# Altium schematic symbol library 逸芬的库鸭.SchLib: 155 symbols
Pins are listed as number, name and electrical type; pins without a type are passive.

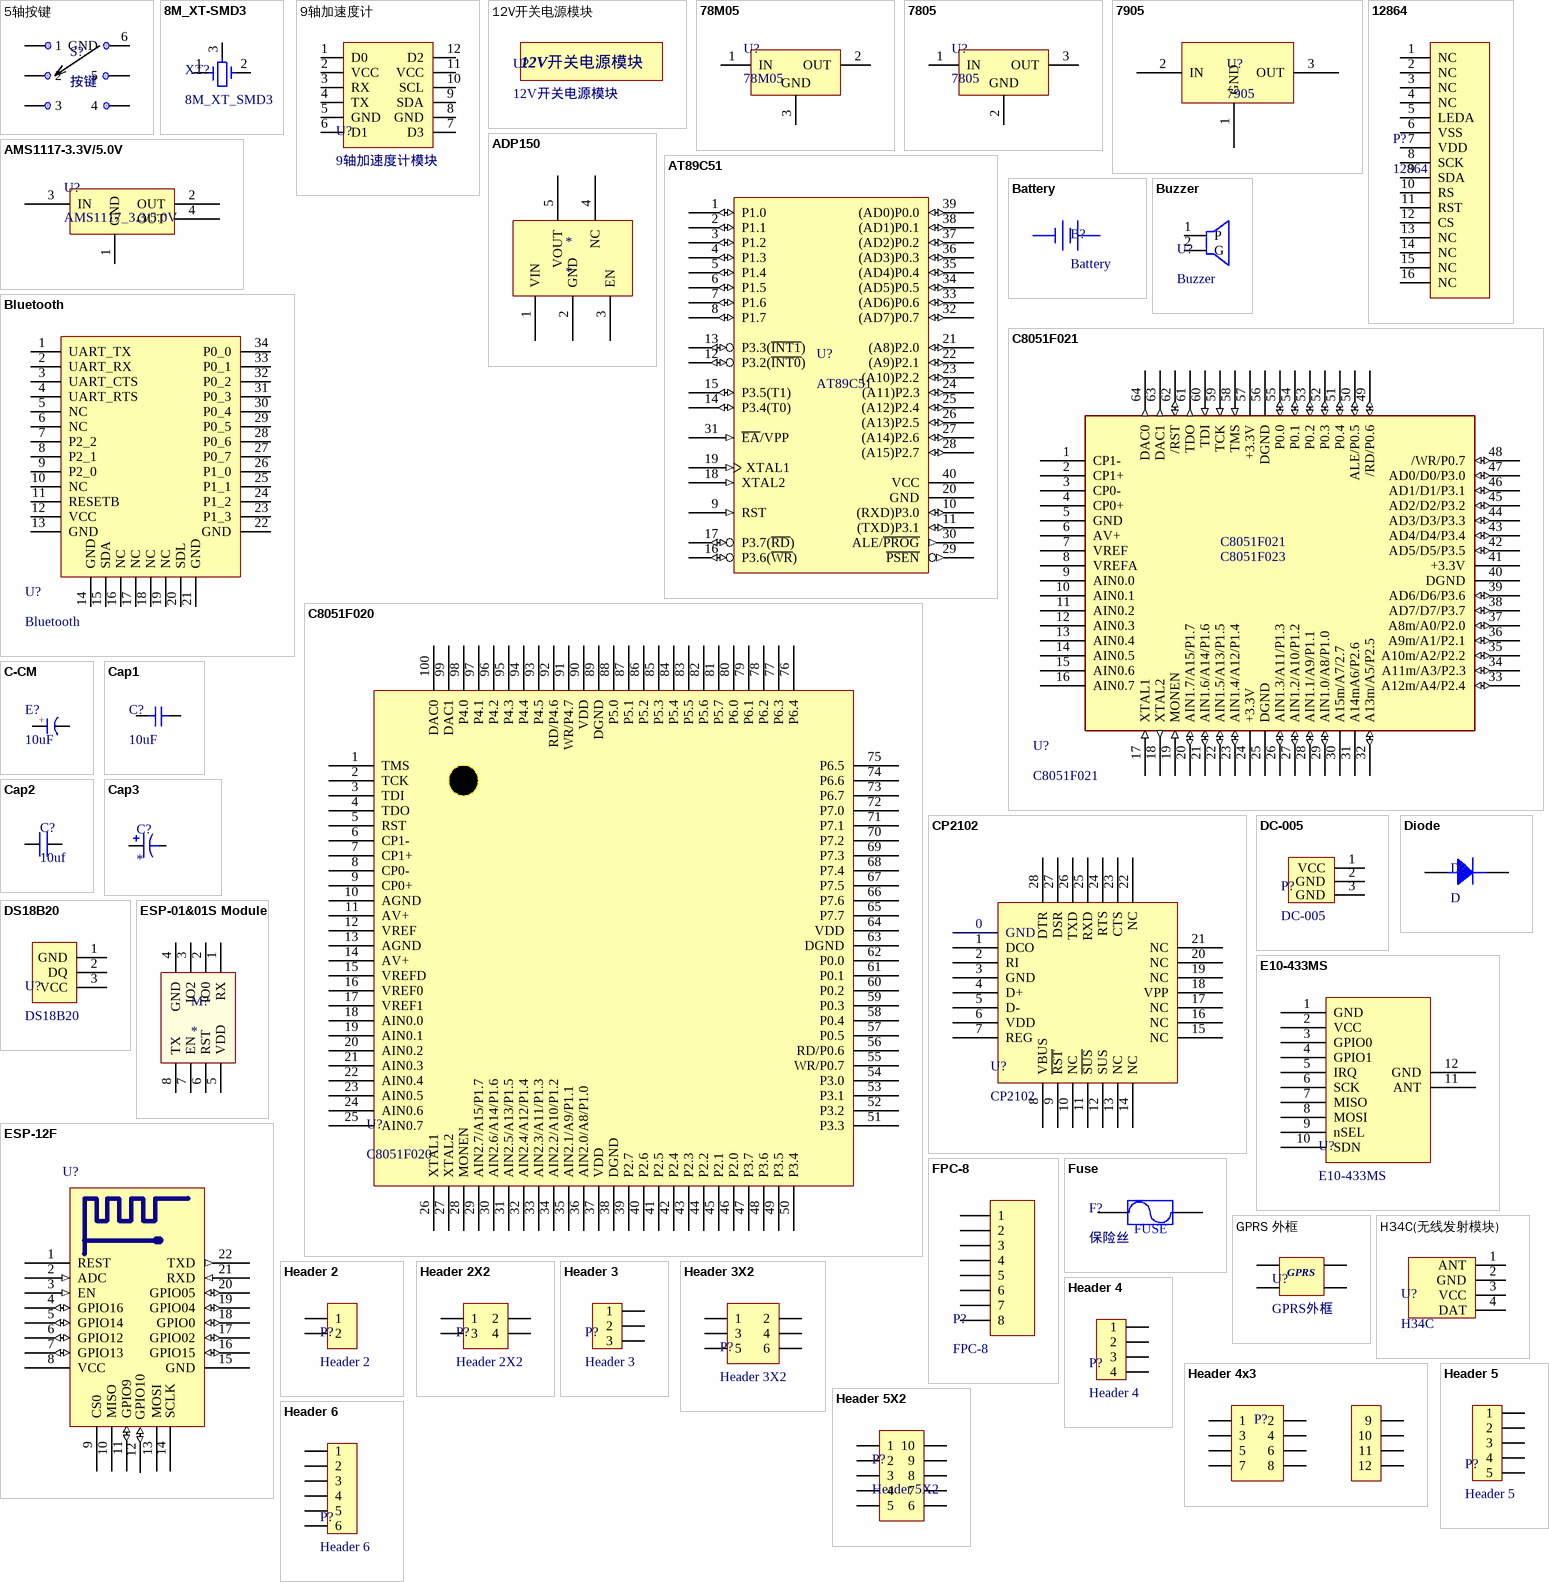
[diagram p0: symbols 5轴按键 to Header 6]

## 5轴按键
designator S?, comment 按键
5轴按键
footprint 5轴按键
pins: 1, 2, 3, 4, 5, 6 GND

## 8M_XT-SMD3
designator XT?, comment 8M_XT_SMD3
footprint 三脚贴片8M晶振 (CSTCC8M00G53-RO)
pins: 1, 2, 3

## 9轴加速度计
designator U?, comment 9轴加速度计模块
footprint 9轴加速度计
pins: 1 D0, 2 VCC, 3 RX, 4 TX, 5 GND, 6 D1, 7 D3, 8 GND, 9 SDA, 10 SCL, 11 VCC, 12 D2

## 12V开关电源模块
designator U?
12V开关电源模块外框
footprint 12V电源开关模块

## 78M05
designator U?
正电压电源芯片
footprint TO-252 (MOS)
pins: 1 IN (power), 2 OUT (power), 3 GND (power)

## 7805
designator U?
正电压电源芯片
footprint TO-220
pins: 1 IN (power), 2 GND (power), 3 OUT (power)

## 7905
designator U?
负电压电源芯片
footprint TO-220
pins: 1 GND, 2 IN, 3 OUT

## 12864
designator P?
显示屏
footprint 12864
pins: 1 NC, 2 NC, 3 NC, 4 NC, 5 LEDA, 6 VSS, 7 VDD, 8 SCK, 9 SDA, 10 RS, 11 RST, 12 CS, 13 NC, 14 NC, 15 NC, 16 NC

## ADP150
designator *
footprint SOT-23-5
pins: 1 VIN, 2 GND, 3 EN, 4 NC, 5 VOUT

## AMS1117-3.3V/5.0V
designator U?, comment AMS1117_3.3/5.0V
电源芯片
footprint SOT-223
pins: 1 GND, 2 OUT, 3 IN, 4 OUT

## AT89C51
designator U?
51单片机
footprint DIP40-W
pins: 1 P1.0 (io), 2 P1.1 (io), 3 P1.2 (io), 4 P1.3 (io), 5 P1.4 (io), 6 P1.5 (io), 7 P1.6 (io), 8 P1.7 (io), 9 RST (in), 10 (RXD)P3.0 (io), 11 (TXD)P3.1 (io), 12 P3.2(~{INT0}) (io), 13 P3.3(~{INT1}) (io), 14 P3.4(T0) (io), 15 P3.5(T1) (io), 16 P3.6(~{WR}) (io), 17 P3.7(~{RD}) (io), 18 XTAL2 (in), 19 XTAL1 (in), 20 GND (power), 21 (A8)P2.0 (io), 22 (A9)P2.1 (io), 23 (A10)P2.2 (io), 24 (A11)P2.3 (io), 25 (A12)P2.4 (io), 26 (A13)P2.5 (io), 27 (A14)P2.6 (io), 28 (A15)P2.7 (io), 29 ~{PSEN} (out), 30 ALE/~{PROG} (out), 31 ~{EA}/VPP (in), 32 (AD7)P0.7 (io), 33 (AD6)P0.6 (io), 34 (AD5)P0.5 (io), 35 (AD4)P0.4 (io), 36 (AD3)P0.3 (io), 37 (AD2)P0.2 (io), 38 (AD1)P0.1 (io), 39 (AD0)P0.0 (io), 40 VCC (power)

## Battery
designator B?
电池
footprint L822(9V电池)
footprint L822(9V电池01)
footprint L1028(12V电池)
pins: 1, 2

## Bluetooth
designator U?
蓝牙
footprint SPP-CA
pins: 1 UART_TX, 2 UART_RX, 3 UART_CTS, 4 UART_RTS, 5 NC, 6 NC, 7 P2_2, 8 P2_1, 9 P2_0, 10 NC, 11 RESETB, 12 VCC, 13 GND, 14 GND, 15 SDA, 16 NC, 17 NC, 18 NC, 19 NC, 20 SDL, 21 GND, 22 GND, 23 P1_3, 24 P1_2, 25 P1_1, 26 P1_0, 27 P0_7, 28 P0_6, 29 P0_5, 30 P0_4, 31 P0_3, 32 P0_2, 33 P0_1, 34 P0_0

## Buzzer
designator U?
蜂鸣器
footprint BUZZER-5mm
footprint BUZZER-6.5mm
footprint BUZZER-8mm
footprint MLT-9032
pins: 1 P, 2 G

## C8051F020
designator U?
020单片机
footprint LQFP-100
pins: 1 TMS, 2 TCK, 3 TDI, 4 TDO, 5 RST, 6 CP1-, 7 CP1+, 8 CP0-, 9 CP0+, 10 AGND, 11 AV+, 12 VREF, 13 AGND, 14 AV+, 15 VREFD, 16 VREF0, 17 VREF1, 18 AIN0.0, 19 AIN0.1, 20 AIN0.2, 21 AIN0.3, 22 AIN0.4, 23 AIN0.5, 24 AIN0.6, 25 AIN0.7, 26 XTAL1, 27 XTAL2, 28 MONEN, 29 AIN2.7/A15/P1.7, 30 AIN2.6/A14/P1.6, 31 AIN2.5/A13/P1.5, 32 AIN2.4/A12/P1.4, 33 AIN2.3/A11/P1.3, 34 AIN2.2/A10/P1.2, 35 AIN2.1/A9/P1.1, 36 AIN2.0/A8/P1.0, 37 VDD, 38 DGND, 39 P2.7, 40 P2.6, 41 P2.5, 42 P2.4, 43 P2.3, 44 P2.2, 45 P2.1, 46 P2.0, 47 P3.7, 48 P3.6, 49 P3.5, 50 P3.4, 51 P3.3, 52 P3.2, 53 P3.1, 54 P3.0, 55 WR/P0.7, 56 RD/P0.6, 57 P0.5, 58 P0.4, 59 P0.3, 60 P0.2, 61 P0.1, 62 P0.0, 63 DGND, 64 VDD, 65 P7.7, 66 P7.6, 67 P7.5, 68 P7.4, 69 P7.3, 70 P7.2, 71 P7.1, 72 P7.0, 73 P6.7, 74 P6.6, 75 P6.5, 76 P6.4, 77 P6.3, 78 P6.2, 79 P6.1, 80 P6.0, 81 P5.7, 82 P5.6, 83 P5.5, 84 P5.4, 85 P5.3, 86 P5.2, 87 P5.1, 88 P5.0, 89 DGND, 90 VDD, 91 WR/P4.7, 92 RD/P4.6, 93 P4.5, 94 P4.4, 95 P4.3, 96 P4.2, 97 P4.1, 98 P4.0, 99 DAC1, 100 DAC0

## C8051F021
designator U?
021单片机
footprint LQFP-64
pins: 1 CP1-, 2 CP1+, 3 CP0-, 4 CP0+, 5 GND (power), 6 AV+ (power), 7 VREF, 8 VREFA, 9 AIN0.0, 10 AIN0.1, 11 AIN0.2, 12 AIN0.3, 13 AIN0.4, 14 AIN0.5, 15 AIN0.6, 16 AIN0.7, 17 XTAL1 (in), 18 XTAL2 (out), 19 MONEN (in), 20 AIN1.7/A15/P1.7 (io), 21 AIN1.6/A14/P1.6 (io), 22 AIN1.5/A13/P1.5 (io), 23 AIN1.4/A12/P1.4 (io), 24 +3.3V (power), 25 DGND (power), 26 AIN1.3/A11/P1.3 (io), 27 AIN1.2/A10/P1.2 (io), 28 AIN1.1/A9/P1.1 (io), 29 AIN1.0/A8/P1.0 (io), 30 A15m/A7/2.7 (power), 31 A14mA6/P2.6 (power), 32 A13m/A5/P2.5 (io), 33 A12m/A4/P2.4 (io), 34 A11m/A3/P2.3 (io), 35 A10m/A2/P2.2 (io), 36 A9m/A1/P2.1 (io), 37 A8m/A0/P2.0 (io), 38 AD7/D7/P3.7 (io), 39 AD6/D6/P3.6 (io), 40 DGND (power), 41 +3.3V (power), 42 AD5/D5/P3.5 (io), 43 AD4/D4/P3.4 (io), 44 AD3/D3/P3.3 (io), 45 AD2/D2/P3.2 (io), 46 AD1/D1/P3.1 (io), 47 AD0/D0/P3.0 (io), 48 /WR/P0.7 (io), 49 /RD/P0.6 (io), 50 ALE/P0.5 (io), 51 P0.4 (io), 52 P0.3 (io), 53 P0.2 (io), 54 P0.1 (io), 55 P0.0 (io), 56 DGND (power), 57 +3.3V (power), 58 TMS (in), 59 TCK (in), 60 TDI (in), 61 TDO (out), 62 /RST (io), 63 DAC1 (out), 64 DAC0 (out)
text: C8051F023

## C-CM
designator E?, comment 10uF
贴片电解电容
footprint CM E(8*10.2) (贴片电解电容，直径8mm，高10.2mm)
footprint CM C(5*5.4) (贴片电解电容，直径5mm，高5.4mm)
pins: 1 A, 2 K
text: +

## Cap1
designator C?, comment 10uF
无极贴片电容
footprint 0805C
footprint 0603C
footprint 1206C
footprint 0402C
footprint 1005C
pins: 1, 2

## Cap2
designator C?, comment 10uf
无极直插电容
footprint 安规电容
footprint RAD-0.1
footprint RAD-0.2
footprint RAD-0.3
pins: 1, 2

## Cap3
designator C?
直插极性电容
footprint RB.1.2
footprint RB.2.4
footprint RB.3.6
footprint RB.8
footprint C_10X16-RA (C-10X16_Horizontal)
pins: 1, 2

## CP2102
designator U?
USB转串口芯片
footprint QFN-28 (CP2102  USB转串口芯片)
pins: 0 GND, 1 DCO, 2 RI, 3 GND, 4 D+, 5 D-, 6 VDD, 7 REG, 8 VBUS, 9 ~{RST}, 10 NC, 11 ~{SUS}, 12 SUS, 13 NC, 14 NC, 15 NC, 16 NC, 17 NC, 18 VPP, 19 NC, 20 NC, 21 NC, 22 NC, 23 CTS, 24 RTS, 25 RXD, 26 TXD, 27 DSR, 28 DTR

## DC-005
designator P?
电源插孔
footprint DC-005
footprint DC-050 (贴片DC005  5.5*2.1)
pins: 1 VCC, 2 GND, 3 GND

## Diode
designator D?, comment D
二极管
footprint SMA/DO-214AC
footprint AXIAL-0.4
footprint SMBJ (TVS瞬态抑制二极管)
pins: 1, 2

## DS18B20
designator U?
数字温度传感器
footprint TO-92
pins: 1 GND, 2 DQ, 3 VCC

## E10-433MS
designator U?
footprint E10-433MS
pins: 1 GND, 2 VCC, 3 GPIO0, 4 GPIO1, 5 IRQ, 6 SCK, 7 MISO, 8 MOSI, 9 nSEL, 10 SDN, 11 ANT, 12 GND

## ESP-01&01S Module
designator M?
footprint esp01 (esp01 wifi模块)
pins: 1 RX, 2 IO0, 3 IO2, 4 GND, 5 VDD, 6 RST, 7 EN, 8 TX

## ESP-12F
designator U?  (value not drawn)
footprint SMD-22
pins: 1 REST, 2 ADC (in), 3 EN (in), 4 GPIO16 (io), 5 GPIO14 (io), 6 GPIO12 (io), 7 GPIO13 (io), 8 VCC (power), 9 CS0 (power), 10 MISO (power), 11 GPIO9 (io), 12 GPIO10 (io), 13 MOSI (power), 14 SCLK (power), 15 GND (power), 16 GPIO15 (io), 17 GPIO02 (io), 18 GPIO0 (io), 19 GPIO04 (io), 20 GPIO05 (io), 21 RXD (in), 22 TXD (out)

## FPC-8
designator P?
软排线底座
footprint FPC-8
pins: 1, 2, 3, 4, 5, 6, 7, 8

## Fuse
designator F?, comment 保险丝
footprint 1812
footprint 1206R
footprint FUSE-1206
pins: 1, 2
text: FUSE

## GPRS 外框
designator U?, comment GPRS外框
footprint GPRS 外框
pins: 0, 0, 1, 2
text: GPRS

## H34C(无线发射模块)
designator U?, comment H34C
无线发射模块
footprint H34C(无线发射模块)
footprint H34C
pins: 1 ANT, 2 GND, 3 VCC, 4 DAT

## Header 2
designator P?
排针
footprint Header 2
footprint HEAT-2
pins: 1, 2

## Header 2X2
designator P?
双排排针
footprint Header 2X2
pins: 1, 2, 3, 4

## Header 3
designator P?
排针
footprint Header 3
footprint HEAT-3
footprint HEADER 3H
pins: 1, 2, 3

## Header 3X2
designator P?
双排排针
footprint Header 3X2
pins: 1, 2, 3, 4, 5, 6

## Header 4
designator P?
排针
footprint Header 4
footprint Header 4(排母)
footprint MX1.25-4PIN
footprint XH4/2.54mm/90
pins: 1, 2, 3, 4

## Header 4x3
designator P?  (value not drawn)
footprint Hearder 4x3
pins: 1, 2, 3, 4, 5, 6, 7, 8, 9, 10, 11, 12

## Header 5
designator P?
排针
footprint Header 5
pins: 1, 2, 3, 4, 5

## Header 5X2
designator P?
排针
footprint HEARDER 5X2_直插
pins: 1, 2, 3, 4, 5, 6, 7, 8, 9, 10

## Header 6
designator P?
排针
footprint Header 6
footprint Header 6(排母)
pins: 1, 2, 3, 4, 5, 6

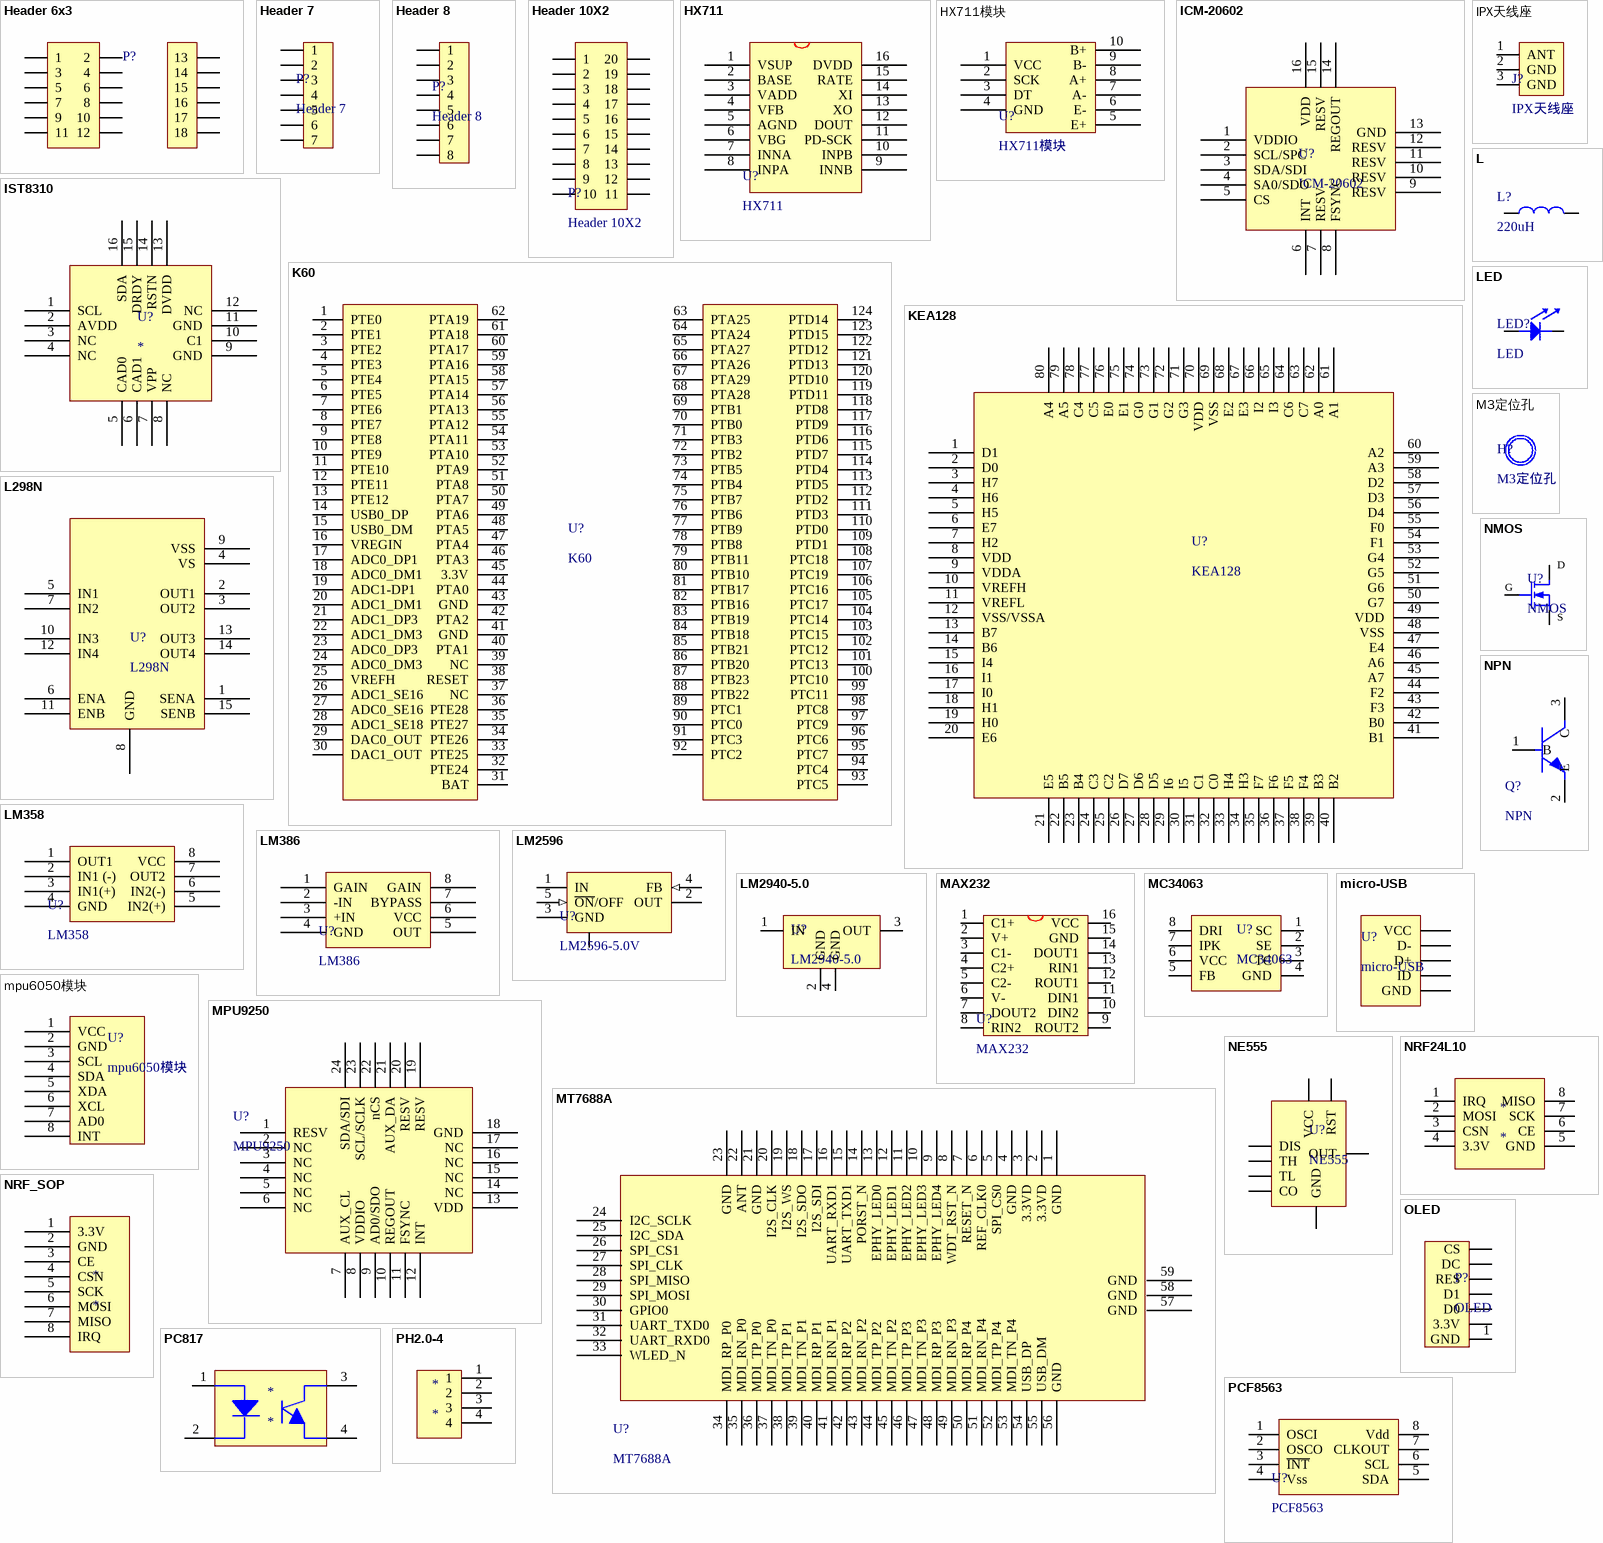
[diagram p1: symbols Header 6x3 to PH2.0-4]

## Header 6x3
designator P?  (value not drawn)
footprint Hearder 6x3
pins: 1, 2, 3, 4, 5, 6, 7, 8, 9, 10, 11, 12, 13, 14, 15, 16, 17, 18

## Header 7
designator P?
排针
footprint Header 7
pins: 1, 2, 3, 4, 5, 6, 7

## Header 8
designator P?
排针
footprint Header 8
pins: 1, 2, 3, 4, 5, 6, 7, 8

## Header 10X2
designator P?
footprint Header 10X2
pins: 1, 2, 3, 4, 5, 6, 7, 8, 9, 10, 11, 12, 13, 14, 15, 16, 17, 18, 19, 20

## HX711
designator U?
A/D转换器芯片
footprint SOP-16
pins: 1 VSUP, 2 BASE, 3 VADD, 4 VFB, 5 AGND, 6 VBG, 7 INNA, 8 INPA, 9 INNB, 10 INPB, 11 PD-SCK, 12 DOUT, 13 XO, 14 XI, 15 RATE, 16 DVDD

## HX711模块
designator U?
A/D转换器模块
footprint HX711模块
pins: 1 VCC, 2 SCK, 3 DT, 4 GND, 5 E+, 6 E-, 7 A-, 8 A+, 9 B-, 10 B+

## ICM-20602
designator U?
footprint LGA-16
pins: 1 VDDIO, 2 SCL/SPC, 3 SDA/SDI, 4 SA0/SDO, 5 CS, 6 INT, 7 RESV, 8 FSYNC, 9 RESV, 10 RESV, 11 RESV, 12 RESV, 13 GND, 14 REGOUT, 15 RESV, 16 VDD

## IPX天线座
designator J?
footprint IPX天线底座
pins: 1 ANT, 2 GND, 3 GND

## IST8310
designator U?
footprint LGA16
pins: 1 SCL, 2 AVDD, 3 NC, 4 NC, 5 CAD0, 6 CAD1, 7 VPP, 8 NC, 9 GND, 10 C1, 11 GND, 12 NC, 13 DVDD, 14 RSTN, 15 DRDY, 16 SDA

## K60
designator U?
恩智浦K60单片机
footprint LQFP-144
footprint K60(龙邱底板)
pins: 1 PTE0, 2 PTE1, 3 PTE2, 4 PTE3, 5 PTE4, 6 PTE5, 7 PTE6, 8 PTE7, 9 PTE8, 10 PTE9, 11 PTE10, 12 PTE11, 13 PTE12, 14 USB0_DP, 15 USB0_DM, 16 VREGIN, 17 ADC0_DP1, 18 ADC0_DM1, 19 ADC1-DP1, 20 ADC1_DM1, 21 ADC1_DP3, 22 ADC1_DM3, 23 ADC0_DP3, 24 ADC0_DM3, 25 VREFH, 26 ADC1_SE16, 27 ADC0_SE16, 28 ADC1_SE18, 29 DAC0_OUT, 30 DAC1_OUT, 31 BAT, 32 PTE24, 33 PTE25, 34 PTE26, 35 PTE27, 36 PTE28, 37 NC, 38 RESET, 39 NC, 40 PTA1, 41 GND, 42 PTA2, 43 GND, 44 PTA0, 45 3.3V, 46 PTA3, 47 PTA4, 48 PTA5, 49 PTA6, 50 PTA7, 51 PTA8, 52 PTA9, 53 PTA10, 54 PTA11, 55 PTA12, 56 PTA13, 57 PTA14, 58 PTA15, 59 PTA16, 60 PTA17, 61 PTA18, 62 PTA19, 63 PTA25, 64 PTA24, 65 PTA27, 66 PTA26, 67 PTA29, 68 PTA28, 69 PTB1, 70 PTB0, 71 PTB3, 72 PTB2, 73 PTB5, 74 PTB4, 75 PTB7, 76 PTB6, 77 PTB9, 78 PTB8, 79 PTB11, 80 PTB10, 81 PTB17, 82 PTB16, 83 PTB19, 84 PTB18, 85 PTB21, 86 PTB20, 87 PTB23, 88 PTB22, 89 PTC1, 90 PTC0, 91 PTC3, 92 PTC2, 93 PTC5, 94 PTC4, 95 PTC7, 96 PTC6, 97 PTC9, 98 PTC8, 99 PTC11, 100 PTC10, 101 PTC13, 102 PTC12, 103 PTC15, 104 PTC14, 105 PTC17, 106 PTC16, 107 PTC19, 108 PTC18, 109 PTD1, 110 PTD0, 111 PTD3, 112 PTD2, 113 PTD5, 114 PTD4, 115 PTD7, 116 PTD6, 117 PTD9, 118 PTD8, 119 PTD11, 120 PTD10, 121 PTD13, 122 PTD12, 123 PTD15, 124 PTD14

## KEA128
designator U?
恩智浦KEA单片机
footprint LQ_KEAP80SYSVK
footprint LQFP-80
pins: 1 D1 (power), 2 D0 (power), 3 H7 (power), 4 H6 (power), 5 H5 (power), 6 E7 (power), 7 H2 (power), 8 VDD (power), 9 VDDA (power), 10 VREFH (power), 11 VREFL (power), 12 VSS/VSSA (power), 13 B7 (power), 14 B6 (power), 15 I4 (power), 16 I1 (power), 17 I0 (power), 18 H1 (power), 19 H0 (power), 20 E6 (power), 21 E5 (power), 22 B5 (power), 23 B4 (power), 24 C3 (power), 25 C2 (power), 26 D7 (power), 27 D6 (power), 28 D5 (power), 29 I6 (power), 30 I5 (power), 31 C1 (power), 32 C0 (power), 33 H4 (power), 34 H3 (power), 35 F7 (power), 36 F6 (power), 37 F5 (power), 38 F4 (power), 39 B3 (power), 40 B2 (power), 41 B1 (power), 42 B0 (power), 43 F3 (power), 44 F2 (power), 45 A7 (power), 46 A6 (power), 47 E4 (power), 48 VSS (power), 49 VDD (power), 50 G7 (power), 51 G6 (power), 52 G5 (power), 53 G4 (power), 54 F1 (power), 55 F0 (power), 56 D4 (power), 57 D3 (power), 58 D2 (power), 59 A3 (power), 60 A2 (power), 61 A1 (power), 62 A0 (power), 63 C7 (power), 64 C6 (power), 65 I3 (power), 66 I2 (power), 67 E3 (power), 68 E2 (power), 69 VSS (power), 70 VDD (power), 71 G3 (power), 72 G2 (power), 73 G1 (power), 74 G0 (power), 75 E1 (power), 76 E0 (power), 77 C5 (power), 78 C4 (power), 79 A5 (power), 80 A4 (power)

## L
designator L?, comment 220uH
电感
footprint 0805L
footprint 电感 220uH(大)
footprint 电感
pins: 1, 2

## L298N
designator U?
驱动芯片
footprint L298N
pins: 1 SENA, 2 OUT1, 3 OUT2, 4 VS, 5 IN1, 6 ENA, 7 IN2, 8 GND, 9 VSS, 10 IN3, 11 ENB, 12 IN4, 13 OUT3, 14 OUT4, 15 SENB

## LED
designator LED?
发光二极管
footprint 0805LED(RED)
footprint 0805LED(GREEN)
footprint 0805LED(BLUE)
footprint LED-BLUE(直插)
footprint LED-RED直插)
pins: 1, 2

## LM358
designator U?
双运算放大器
footprint DIP8
footprint SOP-8N (SOP, 8-Leads, Body 4.90x3.90mm, Pitch 1.27mm, IPC Medium Density)
pins: 1 OUT1, 2 IN1 (-), 3 IN1(+), 4 GND, 5 IN2(+), 6 IN2(-), 7 OUT2, 8 VCC

## LM386
designator U?
音频放大器
footprint DIP8
footprint SOW-8
pins: 1 GAIN, 2 -IN, 3 +IN, 4 GND, 5 OUT, 6 VCC, 7 BYPASS, 8 GAIN

## LM2596
designator U?, comment LM2596-5.0V
5V电源芯片
footprint TO-263-5
pins: 1 IN (power), 2 OUT (power), 3 GND (power), 4 FB (in), 5 ~{ON}/OFF (in), 6 (power)

## LM2940-5.0
designator U?
5V稳压芯片
footprint LM2940
pins: 1 IN, 2 GND, 3 OUT, 4 GND

## M3定位孔
designator H?
footprint 定位孔

## MAX232
designator U?
TTL转232电平芯片
footprint SOP-16
pins: 1 C1+, 2 V+, 3 C1-, 4 C2+, 5 C2-, 6 V-, 7 DOUT2, 8 RIN2, 9 ROUT2, 10 DIN2, 11 DIN1, 12 ROUT1, 13 RIN1, 14 DOUT1, 15 GND, 16 VCC

## MC34063
designator U?
12V电源芯片
footprint SOW-8
pins: 1 SC, 2 SE, 3 TC, 4 GND, 5 FB, 6 VCC, 7 IPK, 8 DRI

## micro-USB
designator U?
USB接口
footprint micro-USB(贴片带定位孔)
footprint Micro-USB(牛角)
footprint Micro-USB (兼容牛角)
pins: 1 VCC (power), 2 D- (power), 3 D+ (power), 4 ID (power), 5 GND (power)

## mpu6050模块
designator U?
footprint 6轴陀螺仪
pins: 1 VCC, 2 GND, 3 SCL, 4 SDA, 5 XDA, 6 XCL, 7 AD0, 8 INT

## MPU9250
designator U?
footprint QFN-24
pins: 1 RESV, 2 NC, 3 NC, 4 NC, 5 NC, 6 NC, 7 AUX_CL, 8 VDDIO, 9 AD0/SDO, 10 REGOUT, 11 FSYNC, 12 INT, 13 VDD, 14 NC, 15 NC, 16 NC, 17 NC, 18 GND, 19 RESV, 20 RESV, 21 AUX_DA, 22 nCS, 23 SCL/SCLK, 24 SDA/SDI

## MT7688A
designator U?
MT7688A模组
footprint MT7688 (MT7688模组)
pins: 1 GND, 2 3.3VD, 3 3.3VD, 4 GND, 5 SPI_CS0, 6 REF_CLK0, 7 RESET_N, 8 WDT_RST_N, 9 EPHY_LED4, 10 EPHY_LED3, 11 EPHY_LED2, 12 EPHY_LED1, 13 EPHY_LED0, 14 PORST_N, 15 UART_TXD1, 16 UART_RXD1, 17 I2S_SDI, 18 I2S_SDO, 19 I2S_WS, 20 I2S_CLK, 21 GND, 22 ANT, 23 GND, 24 I2C_SCLK, 25 I2C_SDA, 26 SPI_CS1, 27 SPI_CLK, 28 SPI_MISO, 29 SPI_MOSI, 30 GPIO0, 31 UART_TXD0, 32 UART_RXD0, 33 WLED_N, 34 MDI_RP_P0, 35 MDI_RN_P0, 36 MDI_TP_P0, 37 MDI_TN_P0, 38 MDI_TP_P1, 39 MDI_TN_P1, 40 MDI_RP_P1, 41 MDI_RN_P1, 42 MDI_RP_P2, 43 MDI_RN_P2, 44 MDI_TP_P2, 45 MDI_TN_P2, 46 MDI_TP_P3, 47 MDI_TN_P3, 48 MDI_RP_P3, 49 MDI_RN_P3, 50 MDI_RP_P4, 51 MDI_RN_P4, 52 MDI_TP_P4, 53 MDI_TN_P4, 54 USB_DP, 55 USB_DM, 56 GND, 57 GND, 58 GND, 59 GND

## NE555
designator U?
555定时器
footprint DIP8
pins: 1 GND, 2 TL, 3 OUT, 4 RST, 5 CO, 6 TH, 7 DIS, 8 VCC

## NMOS
designator U?
footprint TO-252 (MOS)
footprint TO-220
pins: 1 G, 2 S, 3 D

## NPN
designator Q?
NPN三极管
footprint SOT-23
footprint TO-92
pins: 1 B, 2 E, 3 C

## NRF24L10
designator *
NRF24L10模块
footprint NRF24L10
pins: 1 IRQ, 2 MOSI, 3 CSN, 4 3.3V, 5 GND, 6 CE, 7 SCK, 8 MISO

## NRF_SOP
designator *
footprint NRF-SOP
pins: 1 3.3V, 2 GND, 3 CE, 4 CSN, 5 SCK, 6 MOSI, 7 MISO, 8 IRQ

## OLED
designator P?
OLED显示屏幕
footprint 12864-0.96寸
footprint 12864-0.96寸-无边框
pins: 1 GND, 2 3.3V, 3 D0, 4 D1, 5 RES, 6 DC, 7 CS

## PC817
designator *
footprint SOP-4
pins: 1 0, 2 1, 3 2, 4 3

## PCF8563
designator U?
时钟芯片
footprint SOW-8
pins: 1 OSCI, 2 OSCO, 3 ~{INT}, 4 Vss, 5 SDA, 6 SCL, 7 CLKOUT, 8 Vdd

## PH2.0-4
designator *
footprint PH2.0-4
footprint PH1.5-4
pins: 1, 2, 3, 4

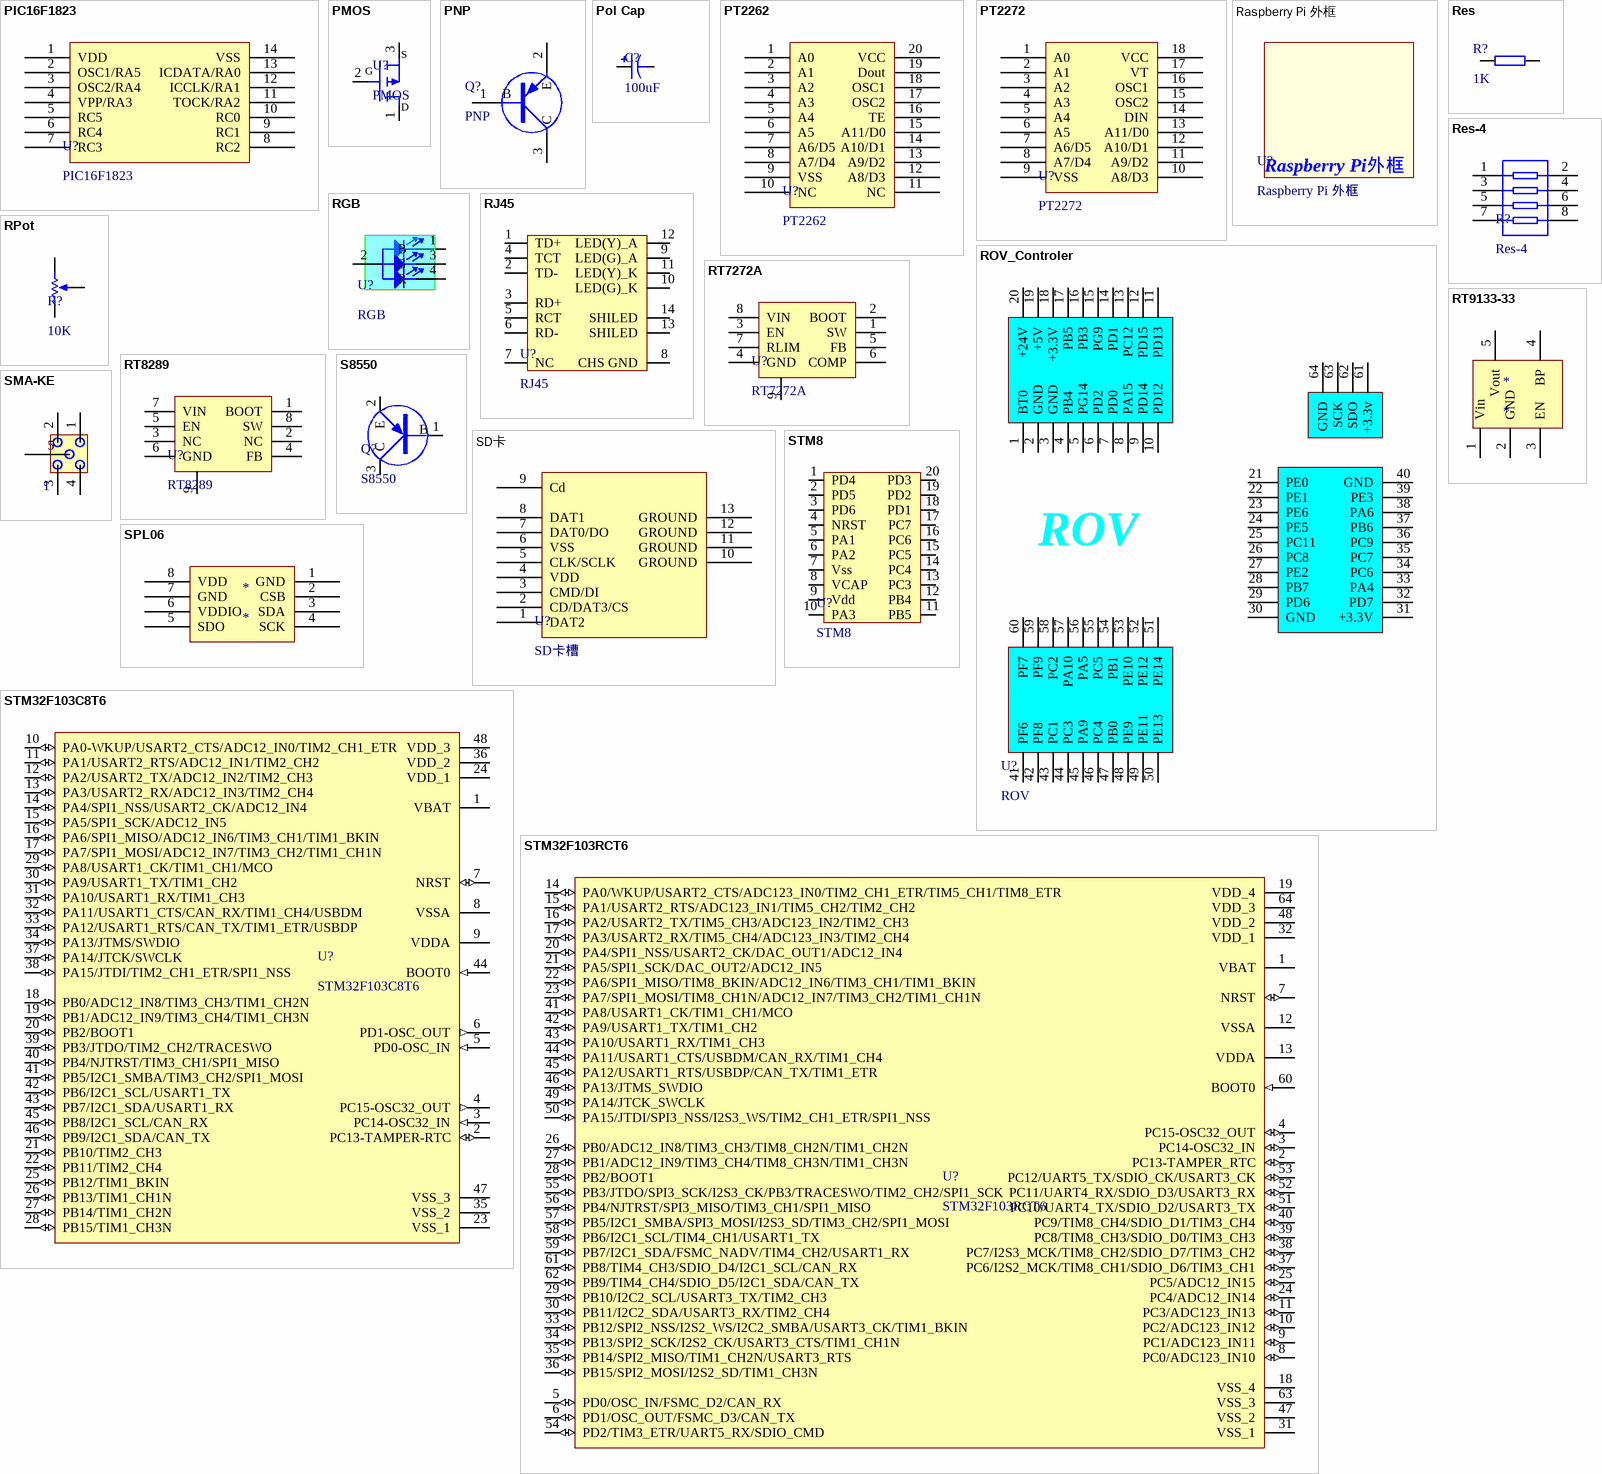
[diagram p2: symbols PIC16F1823 to STM32F103RCT6]

## PIC16F1823
designator U?
PIC单片机
footprint PIC16F1823 - 贴片转直插
footprint SOP-14
pins: 1 VDD, 2 OSC1/RA5, 3 OSC2/RA4, 4 VPP/RA3, 5 RC5, 6 RC4, 7 RC3, 8 RC2, 9 RC1, 10 RC0, 11 TOCK/RA2, 12 ICCLK/RA1, 13 ICDATA/RA0, 14 VSS

## PMOS
designator U?
footprint TO-252 (MOS)
footprint TO-220
footprint IRF4905(PMOS) (IRF4905)
pins: 1 D, 2 G, 3 S

## PNP
designator Q?
PNP三极管
footprint SOT-23
footprint TO-92
pins: 1 B, 2 E, 3 C

## Pol Cap
designator C?, comment 100uF
极性贴片电容
footprint TAJ-D
footprint TAJ-C
footprint TAJ-B
footprint TAJ-A
pins: 1, 2

## PT2262
designator U?
编码芯片
footprint SOW-20
pins: 1 A0, 2 A1, 3 A2, 4 A3, 5 A4, 6 A5, 7 A6/D5, 8 A7/D4, 9 VSS, 10 NC, 11 NC, 12 A8/D3, 13 A9/D2, 14 A10/D1, 15 A11/D0, 16 TE, 17 OSC2, 18 OSC1, 19 Dout, 20 VCC

## PT2272
designator U?
解码芯片
footprint DIP18
pins: 1 A0, 2 A1, 3 A2, 4 A3, 5 A4, 6 A5, 7 A6/D5, 8 A7/D4, 9 VSS, 10 A8/D3, 11 A9/D2, 12 A10/D1, 13 A11/D0, 14 DIN, 15 OSC2, 16 OSC1, 17 VT, 18 VCC

## Raspberry Pi 外框
designator U?
footprint Raspberry Pi
text: Raspberry Pi外框

## Res
designator R?, comment 1K
电阻
footprint 0805R
footprint 0603R
footprint 1210R
footprint 0402R
footprint 1206R
footprint 1005R
footprint AXIAL-0.4
footprint 1812
pins: 1, 2

## Res-4
designator R?
排阻
footprint 排阻(4位贴片)
footprint Header 8
pins: 1, 2, 3, 4, 5, 6, 7, 8

## RGB
designator U?
footprint RGB-3528
pins: 1 B, 2, 3 G, 4 R

## RJ45
designator U?
footprint RJ45
pins: 1 TD+, 2 TD-, 3 RD+, 4 TCT, 5 RCT, 6 RD-, 7 NC, 8 CHS GND, 9 LED(G)_A, 10 LED(G)_K, 11 LED(Y)_K, 12 LED(Y)_A, 13 SHILED, 14 SHILED

## ROV_Controler
designator U?, comment ROV
footprint ROV_Control (航行器控制中心)
pins: 1 BT0, 2 GND, 3 GND, 4 PB4, 5 PG14, 6 PD2, 7 PD0, 8 PA15, 9 PD14, 10 PD12, 11 PD13, 12 PD15, 13 PC12, 14 PD1, 15 PG9, 16 PB3, 17 PB5, 18 +3.3V, 19 +5V, 20 +24V, 21 PE0, 22 PE1, 23 PE6, 24 PE5, 25 PC11, 26 PC8, 27 PE2, 28 PB7, 29 PD6, 30 GND, 31 +3.3V, 32 PD7, 33 PA4, 34 PC6, 35 PC7, 36 PC9, 37 PB6, 38 PA6, 39 PE3, 40 GND, 41 PF6, 42 PF8, 43 PC1, 44 PC3, 45 PA9, 46 PC4, 47 PB0, 48 PE9, 49 PE11, 50 PE13, 51 PE14, 52 PE12, 53 PE10, 54 PB1, 55 PC5, 56 PA5, 57 PA10, 58 PC2, 59 PF9, 60 PF7, 61 +3.3v, 62 SDO, 63 SCK, 64 GND

## RPot
designator R?, comment 10K
电位器
footprint 大旋钮电位器
footprint 3296w
pins: 1 TOP, 2 TAP, 3 BOT

## RT7272A
designator U?
footprint SOP8-Pad
pins: 1 SW, 2 BOOT, 3 EN, 4 GND, 5 FB, 6 COMP, 7 RLIM, 8 VIN, 9 GND

## RT8289
designator U?
pins: 1 BOOT, 2 NC, 3 NC, 4 FB, 5 EN, 6 GND, 7 VIN, 8 SW, 9 GND

## RT9133-33
designator *
footprint SOT-23-5
pins: 1 Vin, 2 GND, 3 EN, 4 BP, 5 Vout

## S8550
designator Q?
PNP
footprint SOT-23
pins: 1 B, 2 E, 3 C

## SD卡
designator U?, comment SD卡槽
footprint SD卡
pins: 1 DAT2, 2 CD/DAT3/CS, 3 CMD/DI, 4 VDD, 5 CLK/SCLK, 6 VSS, 7 DAT0/DO, 8 DAT1, 9 Cd, 10 GROUND, 11 GROUND, 12 GROUND, 13 GROUND

## SMA-KE
designator 1, comment 1
footprint SMA-KE (天线接头)
pins: 1, 2, 3, 4, 5

## SPL06
designator *
footprint LGA8
pins: 1 GND, 2 CSB, 3 SDA, 4 SCK, 5 SDO, 6 VDDIO, 7 GND, 8 VDD

## STM8
designator U?
STM8单片机
footprint STM8_SOP20
pins: 1 PD4, 2 PD5, 3 PD6, 4 NRST, 5 PA1, 6 PA2, 7 Vss, 8 VCAP, 9 Vdd, 10 PA3, 11 PB5, 12 PB4, 13 PC3, 14 PC4, 15 PC5, 16 PC6, 17 PC7, 18 PD1, 19 PD2, 20 PD3

## STM32F103C8T6
designator U?
STM32单片机48引脚
footprint LQFP-48
pins: 1 VBAT (power), 2 PC13-TAMPER-RTC (io), 3 PC14-OSC32_IN (in), 4 PC15-OSC32_OUT (out), 5 PD0-OSC_IN (in), 6 PD1-OSC_OUT (out), 7 NRST (io), 8 VSSA (power), 9 VDDA (power), 10 PA0-WKUP/USART2_CTS/ADC12_IN0/TIM2_CH1_ETR (io), 11 PA1/USART2_RTS/ADC12_IN1/TIM2_CH2 (io), 12 PA2/USART2_TX/ADC12_IN2/TIM2_CH3 (io), 13 PA3/USART2_RX/ADC12_IN3/TIM2_CH4 (io), 14 PA4/SPI1_NSS/USART2_CK/ADC12_IN4 (io), 15 PA5/SPI1_SCK/ADC12_IN5 (io), 16 PA6/SPI1_MISO/ADC12_IN6/TIM3_CH1/TIM1_BKIN (io), 17 PA7/SPI1_MOSI/ADC12_IN7/TIM3_CH2/TIM1_CH1N (io), 18 PB0/ADC12_IN8/TIM3_CH3/TIM1_CH2N (io), 19 PB1/ADC12_IN9/TIM3_CH4/TIM1_CH3N (io), 20 PB2/BOOT1 (io), 21 PB10/TIM2_CH3 (io), 22 PB11/TIM2_CH4 (io), 23 VSS_1 (power), 24 VDD_1 (power), 25 PB12/TIM1_BKIN (io), 26 PB13/TIM1_CH1N (io), 27 PB14/TIM1_CH2N (io), 28 PB15/TIM1_CH3N (io), 29 PA8/USART1_CK/TIM1_CH1/MCO (io), 30 PA9/USART1_TX/TIM1_CH2 (io), 31 PA10/USART1_RX/TIM1_CH3 (io), 32 PA11/USART1_CTS/CAN_RX/TIM1_CH4/USBDM (io), 33 PA12/USART1_RTS/CAN_TX/TIM1_ETR/USBDP (io), 34 PA13/JTMS/SWDIO (io), 35 VSS_2 (power), 36 VDD_2 (power), 37 PA14/JTCK/SWCLK (io), 38 PA15/JTDI/TIM2_CH1_ETR/SPI1_NSS (io), 39 PB3/JTDO/TIM2_CH2/TRACESWO (io), 40 PB4/NJTRST/TIM3_CH1/SPI1_MISO (io), 41 PB5/I2C1_SMBA/TIM3_CH2/SPI1_MOSI (io), 42 PB6/I2C1_SCL/USART1_TX (io), 43 PB7/I2C1_SDA/USART1_RX (io), 44 BOOT0 (in), 45 PB8/I2C1_SCL/CAN_RX (io), 46 PB9/I2C1_SDA/CAN_TX (io), 47 VSS_3 (power), 48 VDD_3 (power)

## STM32F103RCT6
designator U?
STM32单片机64引脚
footprint LQFP-64
pins: 1 VBAT (power), 2 PC13-TAMPER_RTC (io), 3 PC14-OSC32_IN (io), 4 PC15-OSC32_OUT (io), 5 PD0/OSC_IN/FSMC_D2/CAN_RX (io), 6 PD1/OSC_OUT/FSMC_D3/CAN_TX (io), 7 NRST (io), 8 PC0/ADC123_IN10 (io), 9 PC1/ADC123_IN11 (io), 10 PC2/ADC123_IN12 (io), 11 PC3/ADC123_IN13 (io), 12 VSSA (power), 13 VDDA (power), 14 PA0/WKUP/USART2_CTS/ADC123_IN0/TIM2_CH1_ETR/TIM5_CH1/TIM8_ETR (io), 15 PA1/USART2_RTS/ADC123_IN1/TIM5_CH2/TIM2_CH2 (io), 16 PA2/USART2_TX/TIM5_CH3/ADC123_IN2/TIM2_CH3 (io), 17 PA3/USART2_RX/TIM5_CH4/ADC123_IN3/TIM2_CH4 (io), 18 VSS_4 (power), 19 VDD_4 (power), 20 PA4/SPI1_NSS/USART2_CK/DAC_OUT1/ADC12_IN4 (io), 21 PA5/SPI1_SCK/DAC_OUT2/ADC12_IN5 (io), 22 PA6/SPI1_MISO/TIM8_BKIN/ADC12_IN6/TIM3_CH1/TIM1_BKIN (io), 23 PA7/SPI1_MOSI/TIM8_CH1N/ADC12_IN7/TIM3_CH2/TIM1_CH1N (io), 24 PC4/ADC12_IN14 (io), 25 PC5/ADC12_IN15 (io), 26 PB0/ADC12_IN8/TIM3_CH3/TIM8_CH2N/TIM1_CH2N (io), 27 PB1/ADC12_IN9/TIM3_CH4/TIM8_CH3N/TIM1_CH3N (io), 28 PB2/BOOT1 (io), 29 PB10/I2C2_SCL/USART3_TX/TIM2_CH3 (io), 30 PB11/I2C2_SDA/USART3_RX/TIM2_CH4 (io), 31 VSS_1 (power), 32 VDD_1 (power), 33 PB12/SPI2_NSS/I2S2_WS/I2C2_SMBA/USART3_CK/TIM1_BKIN (io), 34 PB13/SPI2_SCK/I2S2_CK/USART3_CTS/TIM1_CH1N (io), 35 PB14/SPI2_MISO/TIM1_CH2N/USART3_RTS (io), 36 PB15/SPI2_MOSI/I2S2_SD/TIM1_CH3N (io), 37 PC6/I2S2_MCK/TIM8_CH1/SDIO_D6/TIM3_CH1 (io), 38 PC7/I2S3_MCK/TIM8_CH2/SDIO_D7/TIM3_CH2 (io), 39 PC8/TIM8_CH3/SDIO_D0/TIM3_CH3 (io), 40 PC9/TIM8_CH4/SDIO_D1/TIM3_CH4 (io), 41 PA8/USART1_CK/TIM1_CH1/MCO (io), 42 PA9/USART1_TX/TIM1_CH2 (io), 43 PA10/USART1_RX/TIM1_CH3 (io), 44 PA11/USART1_CTS/USBDM/CAN_RX/TIM1_CH4 (io), 45 PA12/USART1_RTS/USBDP/CAN_TX/TIM1_ETR (io), 46 PA13/JTMS_SWDIO (io), 47 VSS_2 (power), 48 VDD_2 (power), 49 PA14/JTCK_SWCLK (io), 50 PA15/JTDI/SPI3_NSS/I2S3_WS/TIM2_CH1_ETR/SPI1_NSS (io), 51 PC10/UART4_TX/SDIO_D2/USART3_TX (io), 52 PC11/UART4_RX/SDIO_D3/USART3_RX (io), 53 PC12/UART5_TX/SDIO_CK/USART3_CK (io), 54 PD2/TIM3_ETR/UART5_RX/SDIO_CMD (io), 55 PB3/JTDO/SPI3_SCK/I2S3_CK/PB3/TRACESWO/TIM2_CH2/SPI1_SCK (io), 56 PB4/NJTRST/SPI3_MISO/TIM3_CH1/SPI1_MISO (io), 57 PB5/I2C1_SMBA/SPI3_MOSI/I2S3_SD/TIM3_CH2/SPI1_MOSI (io), 58 PB6/I2C1_SCL/TIM4_CH1/USART1_TX (io), 59 PB7/I2C1_SDA/FSMC_NADV/TIM4_CH2/USART1_RX (io), 60 BOOT0 (in), 61 PB8/TIM4_CH3/SDIO_D4/I2C1_SCL/CAN_RX (io), 62 PB9/TIM4_CH4/SDIO_D5/I2C1_SDA/CAN_TX (io), 63 VSS_3 (power), 64 VDD_3 (power)

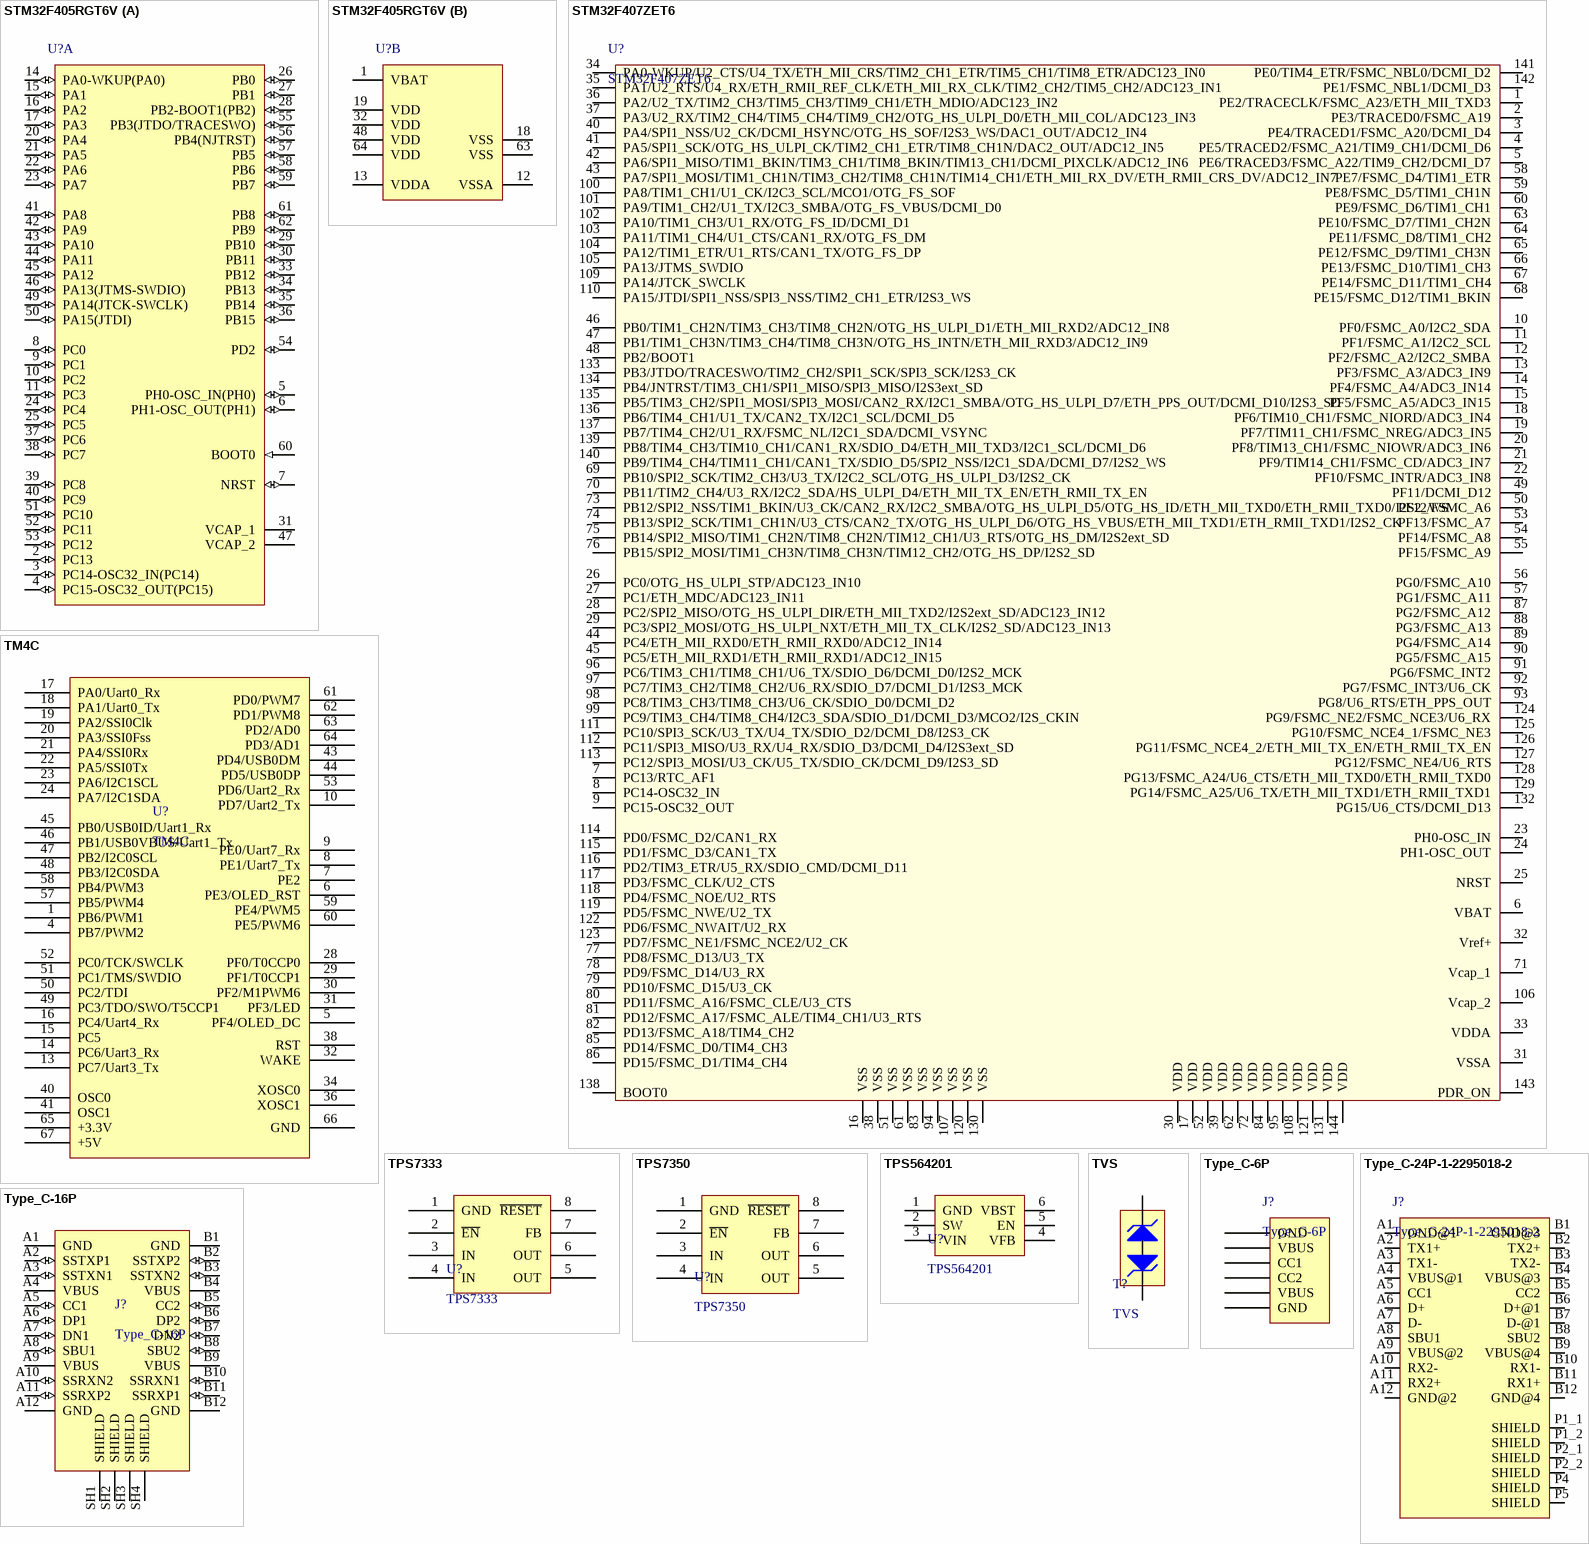
[diagram p3: symbols STM32F405RGT6V to Type_C-24P-1-2295018-2]

## STM32F405RGT6V
designator U?
ARM Cortex-M4 32-bit MCU+FPU, 210 DMIPS, 1024 kB Flash, 192 kB Internal RAM, 51 I/Os, 64-pin LQFP, -40 to 85 degC, Tray; Manufacturer: STMicroelectronics; PartNumber: STM32F405RGT6V; D/A Converter: 2x12-bit; FLASH Size (Prog) (kB): 1024; I/Os (High Current): 51; Internal RAM Size (kB): 192; Operating Frequency(F) (Processor speed) (MHz): 168; Supply Voltage(Vcc) max (V): 3.6; Supply Voltage(Vcc) min (V): 1.8; DatasheetVersion: Rev. 4; PackageVersion: Rev. 4, 06/2013; PackageReference: LQFP64; PackageDescription: 64-Pin Low Profile Quad Flat Package, 10 x 10 mm Body, 0.5 mm Pitch; Supplier 1: Digi-Key; Supplier Part Number 1: STM32F405RGT6V-ND; Supplier 2: Farnell; Supplier Part Number 2: 2333282; Supplier 3: Newark; Supplier Part Number 3: 99W9900; Supplier 4: Newark; Supplier Part Number 4: 66W7297; Supplier 5: Mouser; Supplier Part Number 5: 511-STM32F405RGT6V; Core: ARM Cortex-M4; Packing: Tray; Mounting Technology: Surface Mount; ComponentLink1Description: Manufacturer URL; ComponentLink1URL: http://www.st.com/web/en/home.html; ComponentLink2Description: Datasheet; ComponentLink2URL: http://www.st.com/st-web-ui/static/active/en/resource/technical/document/datasheet/DM00037051.pdf; ComponentLink3Description: Package Specification; ComponentLink3URL: http://www.st.com/st-web-ui/static/active/en/resource/technical/document/datasheet/DM00037051.pdf
footprint LQFP-64
part A pins: 2 PC13 (io) "PC13/EVENTOUT/RTC_OUT,RTC_TAMP1,RTC_TS", 3 PC14-OSC32_IN(PC14) (io) "PC14-OSC32_IN(PC14)/EVENTOUT/OSC32_IN", 4 PC15-OSC32_OUT(PC15) (io) "PC15-OSC32_OUT(PC15)/EVENTOUT/OSC32_OUT", 5 PH0-OSC_IN(PH0) (io) "PH0-OSC_IN(PH0)/EVENTOUT/OSC_IN", 6 PH1-OSC_OUT(PH1) (io) "PH1-OSC_OUT(PH1)/EVENTOUT/OSC_OUT", 7 NRST (io), 8 PC0 (io) "PC0/OTG_HS_ULPI_STP/EVENTOUT/ADC123_IN10", 9 PC1 (io) "PC1/ETH_MDC/EVENTOUT/ADC123_IN11", 10 PC2 (io) "PC2/SPI2_MISO/OTG_HS_ULPI_DIR/ETH_MII_TXD2/I2S2ext_SD/EVENTOUT/ADC123_IN12", 11 PC3 (io) "PC3/SPI2_MOSI/I2S2_SD/OTG_HS_ULPI_NXT/ETH_MII_TX_CLK/EVENTOUT/ADC123_IN13", 14 PA0-WKUP(PA0) (io) "PA0-WKUP(PA0)/USART2_CTS/UART4_TX/ETH_MII_CRS/TIM2_CH1_ETR/TIM5_CH1/TIM8_ETR/EVENTOUT/ADC123_IN0/WKUP", 15 PA1 (io) "PA1/USART2_RTS/UART4_RX/ETH_RMII_REF_CLK/ETH_MII_RX_CLK/TIM5_CH2/TIM2_CH2/EVENTOUT/ADC123_IN1", 16 PA2 (io) "PA2/USART2_TX/TIM5_CH3/TIM9_CH1/TIM2_CH3/ETH_MDIO/EVENTOUT/ADC123_IN2", 17 PA3 (io) "PA3/USART2_RX/TIM5_CH4/TIM9_CH2/TIM2_CH4/OTG_HS_ULPI_D0/ETH_MII_COL/EVENTOUT/ADC123_IN3", 20 PA4 (io) "PA4/SPI1_NSS/SPI3_NSS/USART2_CK/DCMI_HSYNC/OTG_HS_SOF/I2S3_WS/EVENTOUT/ADC12_IN4/DAC_OUT1", 21 PA5 (io) "PA5/SPI1_SCK/OTG_HS_ULPI_CK/TIM2_CH1_ETR/TIM8_CH1N/EVENTOUT/ADC12_IN5/DAC_OUT2", 22 PA6 (io) "PA6/SPI1_MISO/TIM8_BKIN/TIM13_CH1/DCMI_PIXCLK/TIM3_CH1/TIM1_BKIN/EVENTOUT/ADC12_IN6", 23 PA7 (io) "PA7/SPI1_MOSI/TIM8_CH1N/TIM14_CH1/TIM3_CH2/ETH_MII_RX_DV/TIM1_CH1N/ETH_RMII_CRS_DV/EVENTOUT/ADC12_IN7", 24 PC4 (io) "PC4/ETH_RMII_RX_D0/ETH_MII_RX_D0/EVENTOUT/ADC12_IN14", 25 PC5 (io) "PC5/ETH_RMII_RX_D1/ETH_MII_RX_D1/EVENTOUT/ADC12_IN15", 26 PB0 (io) "PB0/TIM3_CH3/TIM8_CH2N/OTG_HS_ULPI_D1/ETH_MII_RXD2/TIM1_CH2N/EVENTOUT/ADC12_IN8", 27 PB1 (io) "PB1/TIM3_CH4/TIM8_CH3N/OTG_HS_ULPI_D2/ETH_MII_RXD3/TIM1_CH3N/EVENTOUT/ADC12_IN9", 28 PB2-BOOT1(PB2) (io) "PB2-BOOT1(PB2)/EVENTOUT", 29 PB10 (io) "PB10/SPI2_SCK/I2S2_CK/I2C2_SCL/USART3_TX/OTG_HS_ULPI_D3/ETH_MII_RX_ER/TIM2_CH3/EVENTOUT", 30 PB11 (io) "PB11/I2C2_SDA/USART3_RX/OTG_HS_ULPI_D4/ETH_RMII_TX_EN/ETH_MII_TX_EN/TIM2_CH4/EVENTOUT", 31 VCAP_1 (power), 33 PB12 (io) "PB12/SPI2_NSS/I2S2_WS/I2C2_SMBA/USART3_CK/TIM1_BKIN/CAN2_RX/OTG_HS_ULPI_D5/ETH_RMII_TXD0/ETH_MII_TXD0/OTG_HS_ID/EVENTOUT", 34 PB13 (io) "PB13/SPI2_SCK/I2S2_CK/USART3_CTS/TIM1_CH1N/CAN2_TX/OTG_HS_ULPI_D6/ETH_RMII_TXD1/ETH_MII_TXD1/EVENTOUT/OTG_HS_VBUS", 35 PB14 (io) "PB14/SPI2_MISO/TIM1_CH2N/TIM12_CH1/OTG_HS_DM/USART3_RTS/TIM8_CH2N/I2S2ext_SD/EVENTOUT", 36 PB15 (io) "PB15/SPI2_MOSI/I2S2_SD/TIM1_CH3N/TIM8_CH3N/TIM12_CH2/OTG_HS_DP/EVENTOUT/RTC_REFIN", 37 PC6 (io) "PC6/I2S2_MCK/TIM8_CH1/SDIO_D6/USART6_TX/DCMI_D0/TIM3_CH1/EVENTOUT", 38 PC7 (io) "PC7/I2S3_MCK/TIM8_CH2/SDIO_D7/USART6_RX/DCMI_D1/TIM3_CH2/EVENTOUT", 39 PC8 (io) "PC8/TIM8_CH3/SDIO_D0/TIM3_CH3/USART6_CK/DCMI_D2/EVENTOUT", 40 PC9 (io) "PC9/I2S_CKIN/MCO2/TIM8_CH4/SDIO_D1/I2C3_SDA/DCMI_D3/TIM3_CH4/EVENTOUT", 41 PA8 (io) "PA8/MCO1/USART1_CK/TIM1_CH1/I2C3_SCL/OTG_FS_SOF/EVENTOUT", 42 PA9 (io) "PA9/USART1_TX/TIM1_CH2/I2C3_SMBA/DCMI_D0/EVENTOUT/OTG_FS_VBUS", 43 PA10 (io) "PA10/USART1_RX/TIM1_CH3/OTG_FS_ID/DCMI_D1/EVENTOUT", 44 PA11 (io) "PA11/USART1_CTS/CAN1_RX/TIM1_CH4/OTG_FS_DM/EVENTOUT", 45 PA12 (io) "PA12/USART1_RTS/CAN1_TX/TIM1_ETR/OTG_FS_DP/EVENTOUT", 46 PA13(JTMS-SWDIO) (io) "PA13(JTMS-SWDIO)/JTMS-SWDIO/EVENTOUT", 47 VCAP_2 (power), 49 PA14(JTCK-SWCLK) (io) "PA14(JTCK-SWCLK)/JTCK-SWCLK/EVENTOUT", 50 PA15(JTDI) (io) "PA15(JTDI)/JTDI/SPI3_NSS/I2S3_WS/TIM2_CH1_ETR/SPI1_NSS/EVENTOUT", 51 PC10 (io) "PC10/SPI3_SCK/I2S3_CK/UART4_TX/SDIO_D2/DCMI_D8/USART3_TX/EVENTOUT", 52 PC11 (io) "PC11/UART4_RX/SPI3_MISO/SDIO_D3/DCMI_D4/USART3_RX/I2S3ext_SD/EVENTOUT", 53 PC12 (io) "PC12/UART5_TX/SDIO_CK/DCMI_D9/SPI3_MOSI/I2S3_SD/USART3_CK/EVENTOUT", 54 PD2 (io) "PD2/TIM3_ETR/UART5_RX/SDIO_CMD/DCMI_D11/EVENTOUT", 55 PB3(JTDO/TRACESWO) (io) "PB3(JTDO/TRACESWO)/JTDO/TRACESWO/SPI3_SCK/I2S3_CK/TIM2_CH2/SPI1_SCK/EVENTOUT", 56 PB4(NJTRST) (io) "PB4(NJTRST)/NJTRST/SPI3_MISO/TIM3_CH1/SPI1_MISO/I2S3ext_SD/EVENTOUT", 57 PB5 (io) "PB5/I2C1_SMBA/CAN2_RX/OTG_HS_ULPI_D7/ETH_PPS_OUT/TIM3_CH2/SPI1_MOSI/SPI3_MOSI/DCMI_D10/I2S3_SD/EVENTOUT", 58 PB6 (io) "PB6/I2C1_SCL/TIM4_CH1/CAN2_TX/DCMI_D5/USART1_TX/EVENTOUT", 59 PB7 (io) "PB7/I2C1_SDA/FSMC_NL/DCMI_VSYNC/USART1_RX/TIM4_CH2/EVENTOUT", 60 BOOT0 (in) "BOOT0/VPP", 61 PB8 (io) "PB8/TIM4_CH3/SDIO_D4/TIM10_CH1/DCMI_D6/ETH_MII_TXD3/I2C1_SCL/CAN1_RX/EVENTOUT", 62 PB9 (io) "PB9/SPI2_NSS/I2S2_WS/TIM4_CH4/TIM11_CH1/SDIO_D5/DCMI_D7/I2C1_SDA/CAN1_TX/EVENTOUT"
part B pins: 1 VBAT (power), 12 VSSA (power), 13 VDDA (power), 18 VSS (power), 19 VDD (power), 32 VDD (power), 48 VDD (power), 63 VSS (power), 64 VDD (power)

## STM32F407ZET6
designator U?
STM32单片机144引脚
footprint LQFP-144
pins: 1 PE2/TRACECLK/FSMC_A23/ETH_MII_TXD3, 2 PE3/TRACED0/FSMC_A19, 3 PE4/TRACED1/FSMC_A20/DCMI_D4, 4 PE5/TRACED2/FSMC_A21/TIM9_CH1/DCMI_D6, 5 PE6/TRACED3/FSMC_A22/TIM9_CH2/DCMI_D7, 6 VBAT, 7 PC13/RTC_AF1, 8 PC14-OSC32_IN, 9 PC15-OSC32_OUT, 10 PF0/FSMC_A0/I2C2_SDA, 11 PF1/FSMC_A1/I2C2_SCL, 12 PF2/FSMC_A2/I2C2_SMBA, 13 PF3/FSMC_A3/ADC3_IN9, 14 PF4/FSMC_A4/ADC3_IN14, 15 PF5/FSMC_A5/ADC3_IN15, 16 VSS, 17 VDD, 18 PF6/TIM10_CH1/FSMC_NIORD/ADC3_IN4, 19 PF7/TIM11_CH1/FSMC_NREG/ADC3_IN5, 20 PF8/TIM13_CH1/FSMC_NIOWR/ADC3_IN6, 21 PF9/TIM14_CH1/FSMC_CD/ADC3_IN7, 22 PF10/FSMC_INTR/ADC3_IN8, 23 PH0-OSC_IN, 24 PH1-OSC_OUT, 25 NRST, 26 PC0/OTG_HS_ULPI_STP/ADC123_IN10, 27 PC1/ETH_MDC/ADC123_IN11, 28 PC2/SPI2_MISO/OTG_HS_ULPI_DIR/ETH_MII_TXD2/I2S2ext_SD/ADC123_IN12, 29 PC3/SPI2_MOSI/OTG_HS_ULPI_NXT/ETH_MII_TX_CLK/I2S2_SD/ADC123_IN13, 30 VDD, 31 VSSA, 32 Vref+, 33 VDDA, 34 PA0-WKUP/U2_CTS/U4_TX/ETH_MII_CRS/TIM2_CH1_ETR/TIM5_CH1/TIM8_ETR/ADC123_IN0, 35 PA1/U2_RTS/U4_RX/ETH_RMII_REF_CLK/ETH_MII_RX_CLK/TIM2_CH2/TIM5_CH2/ADC123_IN1, 36 PA2/U2_TX/TIM2_CH3/TIM5_CH3/TIM9_CH1/ETH_MDIO/ADC123_IN2, 37 PA3/U2_RX/TIM2_CH4/TIM5_CH4/TIM9_CH2/OTG_HS_ULPI_D0/ETH_MII_COL/ADC123_IN3, 38 VSS, 39 VDD, 40 PA4/SPI1_NSS/U2_CK/DCMI_HSYNC/OTG_HS_SOF/I2S3_WS/DAC1_OUT/ADC12_IN4, 41 PA5/SPI1_SCK/OTG_HS_ULPI_CK/TIM2_CH1_ETR/TIM8_CH1N/DAC2_OUT/ADC12_IN5, 42 PA6/SPI1_MISO/TIM1_BKIN/TIM3_CH1/TIM8_BKIN/TIM13_CH1/DCMI_PIXCLK/ADC12_IN6, 43 PA7/SPI1_MOSI/TIM1_CH1N/TIM3_CH2/TIM8_CH1N/TIM14_CH1/ETH_MII_RX_DV/ETH_RMII_CRS_DV/ADC12_IN7, 44 PC4/ETH_MII_RXD0/ETH_RMII_RXD0/ADC12_IN14, 45 PC5/ETH_MII_RXD1/ETH_RMII_RXD1/ADC12_IN15, 46 PB0/TIM1_CH2N/TIM3_CH3/TIM8_CH2N/OTG_HS_ULPI_D1/ETH_MII_RXD2/ADC12_IN8, 47 PB1/TIM1_CH3N/TIM3_CH4/TIM8_CH3N/OTG_HS_INTN/ETH_MII_RXD3/ADC12_IN9, 48 PB2/BOOT1, 49 PF11/DCMI_D12, 50 PF12/FSMC_A6, 51 VSS, 52 VDD, 53 PF13/FSMC_A7, 54 PF14/FSMC_A8, 55 PF15/FSMC_A9, 56 PG0/FSMC_A10, 57 PG1/FSMC_A11, 58 PE7/FSMC_D4/TIM1_ETR, 59 PE8/FSMC_D5/TIM1_CH1N, 60 PE9/FSMC_D6/TIM1_CH1, 61 VSS, 62 VDD, 63 PE10/FSMC_D7/TIM1_CH2N, 64 PE11/FSMC_D8/TIM1_CH2, 65 PE12/FSMC_D9/TIM1_CH3N, 66 PE13/FSMC_D10/TIM1_CH3, 67 PE14/FSMC_D11/TIM1_CH4, 68 PE15/FSMC_D12/TIM1_BKIN, 69 PB10/SPI2_SCK/TIM2_CH3/U3_TX/I2C2_SCL/OTG_HS_ULPI_D3/I2S2_CK, 70 PB11/TIM2_CH4/U3_RX/I2C2_SDA/HS_ULPI_D4/ETH_MII_TX_EN/ETH_RMII_TX_EN, 71 Vcap_1, 72 VDD, 73 PB12/SPI2_NSS/TIM1_BKIN/U3_CK/CAN2_RX/I2C2_SMBA/OTG_HS_ULPI_D5/OTG_HS_ID/ETH_MII_TXD0/ETH_RMII_TXD0/I2S2_WS, 74 PB13/SPI2_SCK/TIM1_CH1N/U3_CTS/CAN2_TX/OTG_HS_ULPI_D6/OTG_HS_VBUS/ETH_MII_TXD1/ETH_RMII_TXD1/I2S2_CK, 75 PB14/SPI2_MISO/TIM1_CH2N/TIM8_CH2N/TIM12_CH1/U3_RTS/OTG_HS_DM/I2S2ext_SD, 76 PB15/SPI2_MOSI/TIM1_CH3N/TIM8_CH3N/TIM12_CH2/OTG_HS_DP/I2S2_SD, 77 PD8/FSMC_D13/U3_TX, 78 PD9/FSMC_D14/U3_RX, 79 PD10/FSMC_D15/U3_CK, 80 PD11/FSMC_A16/FSMC_CLE/U3_CTS, 81 PD12/FSMC_A17/FSMC_ALE/TIM4_CH1/U3_RTS, 82 PD13/FSMC_A18/TIM4_CH2, 83 VSS, 84 VDD, 85 PD14/FSMC_D0/TIM4_CH3, 86 PD15/FSMC_D1/TIM4_CH4, 87 PG2/FSMC_A12, 88 PG3/FSMC_A13, 89 PG4/FSMC_A14, 90 PG5/FSMC_A15, 91 PG6/FSMC_INT2, 92 PG7/FSMC_INT3/U6_CK, 93 PG8/U6_RTS/ETH_PPS_OUT, 94 VSS, 95 VDD, 96 PC6/TIM3_CH1/TIM8_CH1/U6_TX/SDIO_D6/DCMI_D0/I2S2_MCK, 97 PC7/TIM3_CH2/TIM8_CH2/U6_RX/SDIO_D7/DCMI_D1/I2S3_MCK, 98 PC8/TIM3_CH3/TIM8_CH3/U6_CK/SDIO_D0/DCMI_D2, 99 PC9/TIM3_CH4/TIM8_CH4/I2C3_SDA/SDIO_D1/DCMI_D3/MCO2/I2S_CKIN, 100 PA8/TIM1_CH1/U1_CK/I2C3_SCL/MCO1/OTG_FS_SOF, 101 PA9/TIM1_CH2/U1_TX/I2C3_SMBA/OTG_FS_VBUS/DCMI_D0, 102 PA10/TIM1_CH3/U1_RX/OTG_FS_ID/DCMI_D1, 103 PA11/TIM1_CH4/U1_CTS/CAN1_RX/OTG_FS_DM, 104 PA12/TIM1_ETR/U1_RTS/CAN1_TX/OTG_FS_DP, 105 PA13/JTMS_SWDIO, 106 Vcap_2, 107 VSS, 108 VDD, 109 PA14/JTCK_SWCLK, 110 PA15/JTDI/SPI1_NSS/SPI3_NSS/TIM2_CH1_ETR/I2S3_WS, 111 PC10/SPI3_SCK/U3_TX/U4_TX/SDIO_D2/DCMI_D8/I2S3_CK, 112 PC11/SPI3_MISO/U3_RX/U4_RX/SDIO_D3/DCMI_D4/I2S3ext_SD, 113 PC12/SPI3_MOSI/U3_CK/U5_TX/SDIO_CK/DCMI_D9/I2S3_SD, 114 PD0/FSMC_D2/CAN1_RX, 115 PD1/FSMC_D3/CAN1_TX, 116 PD2/TIM3_ETR/U5_RX/SDIO_CMD/DCMI_D11, 117 PD3/FSMC_CLK/U2_CTS, 118 PD4/FSMC_NOE/U2_RTS, 119 PD5/FSMC_NWE/U2_TX, 120 VSS, 121 VDD, 122 PD6/FSMC_NWAIT/U2_RX, 123 PD7/FSMC_NE1/FSMC_NCE2/U2_CK, 124 PG9/FSMC_NE2/FSMC_NCE3/U6_RX, 125 PG10/FSMC_NCE4_1/FSMC_NE3, 126 PG11/FSMC_NCE4_2/ETH_MII_TX_EN/ETH_RMII_TX_EN, 127 PG12/FSMC_NE4/U6_RTS, 128 PG13/FSMC_A24/U6_CTS/ETH_MII_TXD0/ETH_RMII_TXD0, 129 PG14/FSMC_A25/U6_TX/ETH_MII_TXD1/ETH_RMII_TXD1, 130 VSS, 131 VDD, 132 PG15/U6_CTS/DCMI_D13, 133 PB3/JTDO/TRACESWO/TIM2_CH2/SPI1_SCK/SPI3_SCK/I2S3_CK, 134 PB4/JNTRST/TIM3_CH1/SPI1_MISO/SPI3_MISO/I2S3ext_SD, 135 PB5/TIM3_CH2/SPI1_MOSI/SPI3_MOSI/CAN2_RX/I2C1_SMBA/OTG_HS_ULPI_D7/ETH_PPS_OUT/DCMI_D10/I2S3_SD, 136 PB6/TIM4_CH1/U1_TX/CAN2_TX/I2C1_SCL/DCMI_D5, 137 PB7/TIM4_CH2/U1_RX/FSMC_NL/I2C1_SDA/DCMI_VSYNC, 138 BOOT0, 139 PB8/TIM4_CH3/TIM10_CH1/CAN1_RX/SDIO_D4/ETH_MII_TXD3/I2C1_SCL/DCMI_D6, 140 PB9/TIM4_CH4/TIM11_CH1/CAN1_TX/SDIO_D5/SPI2_NSS/I2C1_SDA/DCMI_D7/I2S2_WS, 141 PE0/TIM4_ETR/FSMC_NBL0/DCMI_D2, 142 PE1/FSMC_NBL1/DCMI_D3, 143 PDR_ON, 144 VDD

## TM4C
designator U?
footprint TM4C底板
pins: 1 PB6/PWM1, 4 PB7/PWM2, 5 PF4/OLED_DC, 6 PE3/OLED_RST, 7 PE2, 8 PE1/Uart7_Tx, 9 PE0/Uart7_Rx, 10 PD7/Uart2_Tx, 13 PC7/Uart3_Tx, 14 PC6/Uart3_Rx, 15 PC5, 16 PC4/Uart4_Rx, 17 PA0/Uart0_Rx, 18 PA1/Uart0_Tx, 19 PA2/SSI0Clk, 20 PA3/SSI0Fss, 21 PA4/SSI0Rx, 22 PA5/SSI0Tx, 23 PA6/I2C1SCL, 24 PA7/I2C1SDA, 28 PF0/T0CCP0, 29 PF1/T0CCP1, 30 PF2/M1PWM6, 31 PF3/LED, 32 WAKE, 34 XOSC0, 36 XOSC1, 38 RST, 40 OSC0, 41 OSC1, 43 PD4/USB0DM, 44 PD5/USB0DP, 45 PB0/USB0ID/Uart1_Rx, 46 PB1/USB0VBUS/Uart1_Tx, 47 PB2/I2C0SCL, 48 PB3/I2C0SDA, 49 PC3/TDO/SWO/T5CCP1, 50 PC2/TDI, 51 PC1/TMS/SWDIO, 52 PC0/TCK/SWCLK, 53 PD6/Uart2_Rx, 57 PB5/PWM4, 58 PB4/PWM3, 59 PE4/PWM5, 60 PE5/PWM6, 61 PD0/PWM7, 62 PD1/PWM8, 63 PD2/AD0, 64 PD3/AD1, 65 +3.3V, 66 GND, 67 +5V

## TPS7333
designator U?
3.3V电源芯片
footprint SOP-8
pins: 1 GND, 2 ~{EN} (power), 3 IN, 4 IN, 5 OUT, 6 OUT, 7 FB, 8 ~{RESET}

## TPS7350
designator U?
5V电源芯片
footprint SOP-8
pins: 1 GND, 2 ~{EN} (power), 3 IN, 4 IN, 5 OUT, 6 OUT, 7 FB, 8 ~{RESET}

## TPS564201
designator U?
footprint SOT23-6
pins: 1 GND, 2 SW, 3 VIN, 4 VFB, 5 EN, 6 VBST

## TVS
designator T?
footprint TVS
footprint SMBJ (TVS瞬态抑制二极管)
pins: 1 A, 2 K

## Type_C-6P
designator J?
footprint Type_C-6P
pins: A5 CC1, A9 VBUS, A12 GND, B5 CC2, B9 VBUS, B12 GND

## Type_C-16P
designator J?
UJ31 Series Single Port 24 Contact Horizontal SMT Shielded USB-C 3.1 Receptacle
footprint Type_C-16P (贴片USB-3.1  4固定插脚)
pins: A1 GND (power), A2 SSTXP1 (io), A3 SSTXN1 (io), A4 VBUS (power), A5 CC1 (io), A6 DP1 (io), A7 DN1 (io), A8 SBU1 (io), A9 VBUS (power), A10 SSRXN2 (io), A11 SSRXP2 (io), A12 GND (power), B1 GND (power), B2 SSTXP2 (io), B3 SSTXN2 (io), B4 VBUS (power), B5 CC2 (io), B6 DP2 (io), B7 DN2 (io), B8 SBU2 (io), B9 VBUS (power), B10 SSRXN1 (io), B11 SSRXP1 (io), B12 GND (power), SH1 SHIELD (power), SH2 SHIELD (power), SH3 SHIELD (power), SH4 SHIELD (power)

## Type_C-24P-1-2295018-2
designator J?
Conn USB Type C RCP 12 POS Solder RA SMD 12 Terminal 1 Port T/R
footprint Type_C-TE_1-2295018-2(Primary)
pins: A1 GND@1, A2 TX1+, A3 TX1-, A4 VBUS@1, A5 CC1, A6 D+, A7 D-, A8 SBU1, A9 VBUS@2, A10 RX2-, A11 RX2+, A12 GND@2, B1 GND@3, B2 TX2+, B3 TX2-, B4 VBUS@3, B5 CC2, B6 D+@1, B7 D-@1, B8 SBU2, B9 VBUS@4, B10 RX1-, B11 RX1+, B12 GND@4, P1_1 SHIELD, P1_2 SHIELD, P2_1 SHIELD, P2_2 SHIELD, P4 SHIELD, P5 SHIELD

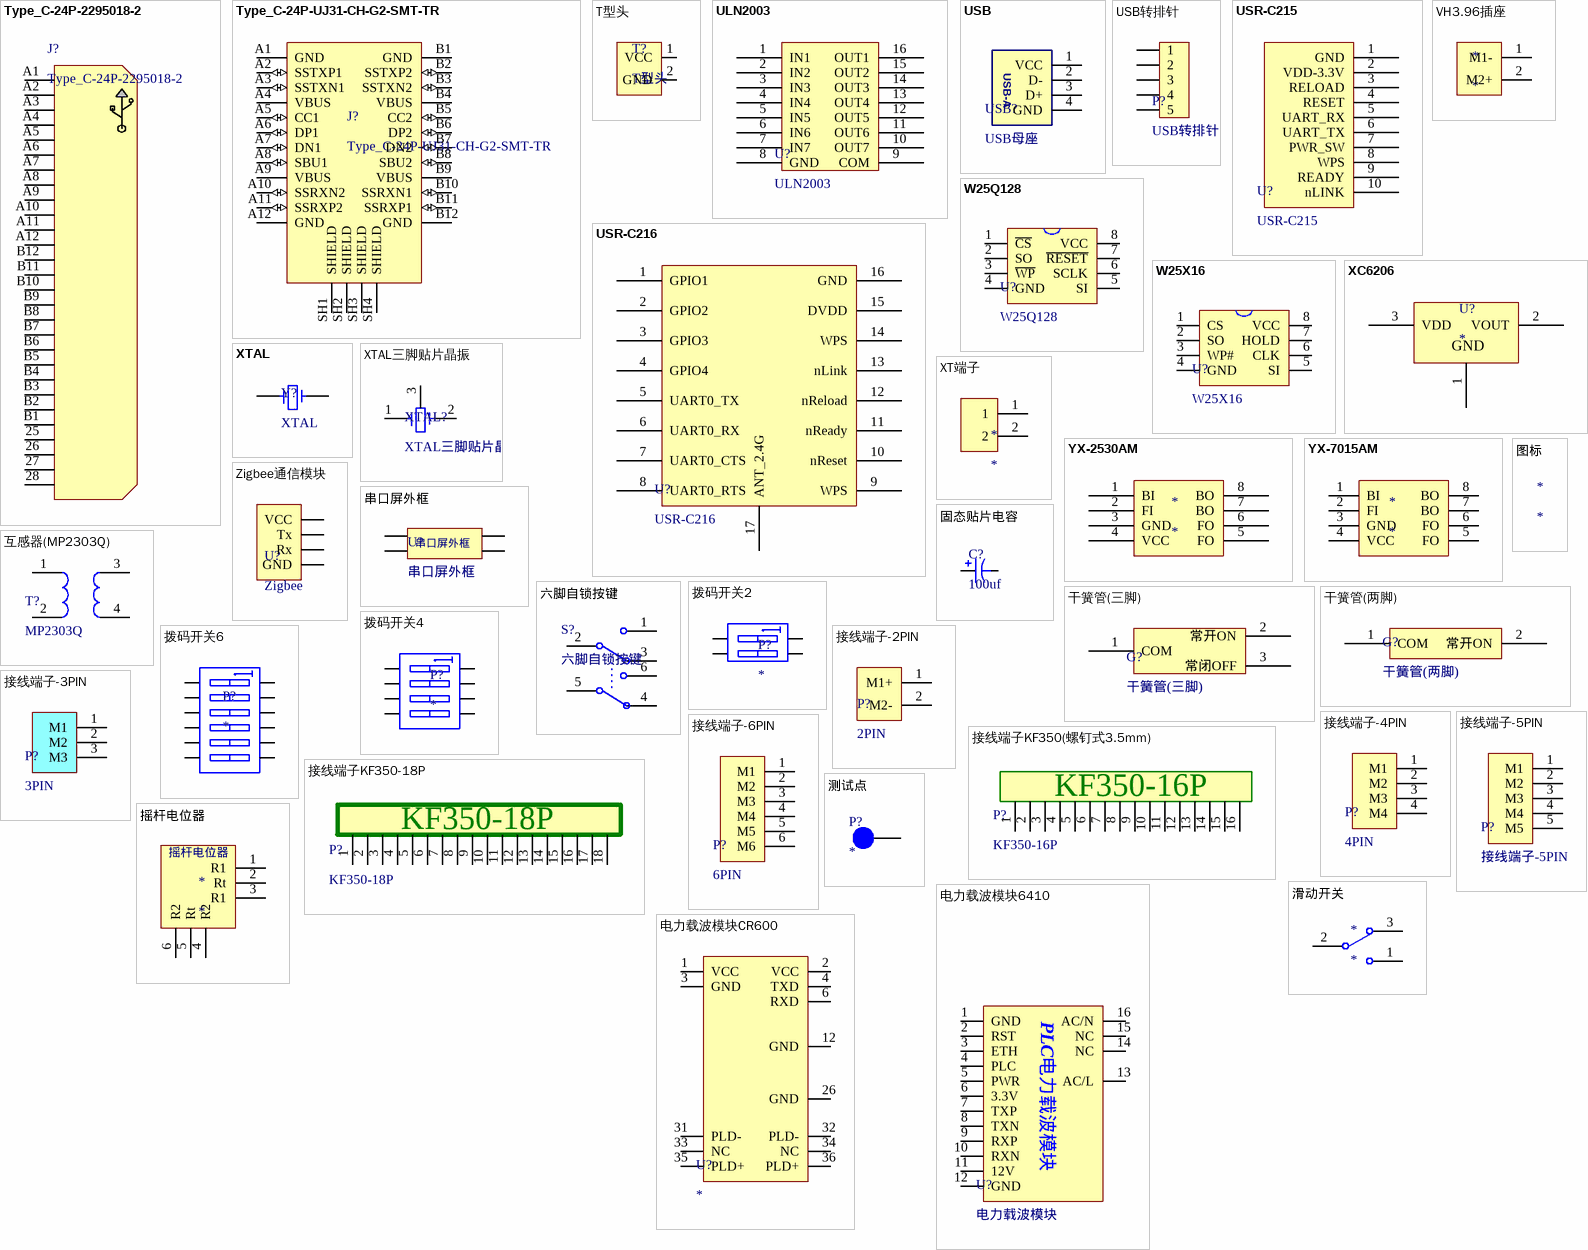
[diagram p4: symbols Type_C-24P-2295018-2 to 电力载波模块CR600]

## Type_C-24P-2295018-2
designator J?
SPLASH PROOF USB TYPE C REC, DUAL SMT
footprint Type_C-CONN24_USB229501
pins: 25, 26, 27, 28, A1, A2, A3, A4, A5, A6, A7, A8, A9, A10, A11, A12, B1 B12, B2 B11, B3 B10, B4 B9, B5 B8, B6 B7, B7 B6, B8 B5, B9 B4, B10 B3, B11 B2, B12 B1

## Type_C-24P-UJ31-CH-G2-SMT-TR
designator J?
UJ31 Series Single Port 24 Contact Horizontal SMT Shielded USB-C 3.1 Receptacle
footprint Type_C-UJ31-CH-G2-SMT-TR(Primary)
pins: A1 GND (power), A2 SSTXP1 (io), A3 SSTXN1 (io), A4 VBUS (power), A5 CC1 (io), A6 DP1 (io), A7 DN1 (io), A8 SBU1 (io), A9 VBUS (power), A10 SSRXN2 (io), A11 SSRXP2 (io), A12 GND (power), B1 GND (power), B2 SSTXP2 (io), B3 SSTXN2 (io), B4 VBUS (power), B5 CC2 (io), B6 DP2 (io), B7 DN2 (io), B8 SBU2 (io), B9 VBUS (power), B10 SSRXN1 (io), B11 SSRXP1 (io), B12 GND (power), SH1 SHIELD (power), SH2 SHIELD (power), SH3 SHIELD (power), SH4 SHIELD (power)

## T型头
designator T?
T型接头
footprint T型头
pins: 1 VCC, 2 GND

## ULN2003
designator U?
驱动芯片
footprint SOW-16
pins: 1 IN1, 2 IN2, 3 IN3, 4 IN4, 5 IN5, 6 IN6, 7 IN7, 8 GND, 9 COM, 10 OUT7, 11 OUT6, 12 OUT5, 13 OUT4, 14 OUT3, 15 OUT2, 16 OUT1

## USB
designator USB?, comment USB母座
footprint USB-A
footprint USB-A/S_D
pins: 1 VCC, 2 D-, 3 D+, 4 GND
text: USB-A

## USB转排针
designator P?
footprint USB转排针
pins: 1, 2, 3, 4, 5

## USR-C215
designator U?
WIFI模块
footprint USR-C215
pins: 1 GND, 2 VDD-3.3V, 3 RELOAD, 4 RESET, 5 UART_RX, 6 UART_TX, 7 PWR_SW, 8 WPS, 9 READY, 10 nLINK

## USR-C216
designator U?
footprint USR-C216 (有人公司WIFI模组 USR-C216)
pins: 1 GPIO1, 2 GPIO2, 3 GPIO3, 4 GPIO4, 5 UART0_TX, 6 UART0_RX, 7 UART0_CTS, 8 UART0_RTS, 9 WPS, 10 nReset, 11 nReady, 12 nReload, 13 nLink, 14 WPS, 15 DVDD, 16 GND, 17 ANT_2.4G

## VH3.96插座
designator *
VH3.96插座
footprint VH3.96-LI-2P
footprint VH3.96-WI-2P
pins: 1 M1-, 2 M2+

## W25Q128
designator U?
footprint SOW-8
pins: 1 ~{CS}, 2 SO, 3 ~{WP}, 4 GND, 5 SI, 6 SCLK, 7 ~{RESET}, 8 VCC

## W25X16
designator U?
FLASH
footprint SOW-8
pins: 1 CS, 2 SO, 3 WP#, 4 GND, 5 SI, 6 CLK, 7 HOLD, 8 VCC

## XC6206
designator U?
footprint SOT-23
pins: 1 GND, 2 VOUT, 3 VDD

## XTAL
designator Y?
两脚直插晶振
footprint HC-49S
footprint CAS-309
pins: 1, 2

## XTAL三脚贴片晶振
designator XTAL?
footprint 三脚贴片8M晶振 (CSTCC8M00G53-RO)
pins: 1, 2, 3

## XT端子
designator *
footprint TX60-LI-P (长：16mm，宽：8.2mm，高：16mm)
footprint TX60-LI-S (长：16mm，宽：8.2mm，高：16mm)
footprint TX60PW-F20 (长：18.8mm， 宽：16mm，高：8.6mm)
footprint TX60PW-M20 (长：18.8mm， 宽：16mm，高：8.6mm)
pins: 1, 2

## YX-2530AM
designator *
footprint SOP-8
pins: 1 BI, 2 FI, 3 GND, 4 VCC, 5 FO, 6 FO, 7 BO, 8 BO

## YX-7015AM
designator *
footprint DIP8
pins: 1 BI, 2 FI, 3 GND, 4 VCC, 5 FO, 6 FO, 7 BO, 8 BO

## Zigbee通信模块
designator U?, comment Zigbee
footprint zigbee
pins: 1 VCC, 2 Tx, 3 Rx, 4 GND

## 串口屏外框
designator U?
footprint 串口屏 3.2寸
footprint 串口屏 3.5寸
pins: 0, 0, 0, 0

## 互感器(MP2303Q)
designator T?, comment MP2303Q
互感器
footprint 互感器
pins: 1, 2, 3, 4

## 六脚自锁按键
designator S?
footprint 六脚自锁按键
pins: 1, 2, 3, 4, 5, 6

## 固态贴片电容
designator C?, comment 100uf
固态贴片电容
footprint ED6.3
footprint ED8
pins: 1, 2

## 图标
designator *
footprint 无人机
footprint 电量显示
footprint LOGO_Wheel
footprint LOGO_Thunder
footprint LOGO_JMU
footprint LOGO_GND
footprint LOGO_Car
footprint LOGO_Buzzer
footprint LOGO_Load
footprint LOGO_Buletooth
footprint LOGO_Zigbee
footprint LOGO_Display
footprint LOGO_Gyro
footprint LOGO_Vcc
footprint LOGO_ETA
footprint LOGO_ETA/无开窗
footprint LOGO_Led
footprint LOGO_Photodiode
footprint logo_ezviz

## 干簧管(三脚)
designator G?
干簧管
footprint 干簧管(三脚)
pins: 1 COM, 2 常开ON, 3 常闭OFF

## 干簧管(两脚)
designator G?
footprint 干簧管(两脚)
pins: 1 COM, 2 常开ON

## 拨码开关2
designator P?
2位拨码开关
footprint 拨码开关2-SOP
pins: 1 A1, 2 A2, 3 A3, 4 A4

## 拨码开关4
designator P?
4位拨码开关
footprint 拨码开关4-DIP
footprint 拨码开关4-SOP
pins: 1 A1, 2 A2, 3 A3, 4 A4, 5 B4, 6 B3, 7 B2, 8 B1

## 拨码开关6
designator P?
6位拨码开关
footprint 拨码开关6-DIP
pins: 1 A1, 2 A2, 3 A3, 4 A4, 5 A5, 6 A5, 7 B5, 8 B5, 9 B4, 10 B3, 11 B2, 12 B1

## 接线端子-2PIN
designator P?, comment 2PIN
footprint 拔插式接线端子-2PIN
footprint HEAT-2
footprint 接线端子(2.54mm)-2PIN
footprint KF128-2P
footprint XT60-F
footprint VH3.96-LI-2P
pins: 1 M1+, 2 M2-

## 接线端子-3PIN
designator P?, comment 3PIN
footprint 拔插式接线端子-3PIN
footprint HEAT-3
footprint 接线端子(2.54mm)-3PIN
footprint XH2.54-3P/90
footprint KF128-3P
footprint XH3/2.54mm/180
footprint KF2EDGK5.0-3P
pins: 1 M1, 2 M2, 3 M3

## 接线端子-4PIN
designator P?, comment 4PIN
footprint 接线端子(2.54mm)-4PIN
footprint XH4/2.54mm/90
footprint XH4/2.54mm/180
pins: 1 M1, 2 M2, 3 M3, 4 M4

## 接线端子-5PIN
designator P?
footprint 接线端子(2.54mm)-5PIN
pins: 1 M1, 2 M2, 3 M3, 4 M4, 5 M5

## 接线端子-6PIN
designator P?, comment 6PIN
footprint 接线端子(2.54mm)-6PIN
footprint XH2.54-6P
footprint XH2.54-6P/90
footprint XH6/2.54mm/180
pins: 1 M1, 2 M2, 3 M3, 4 M4, 5 M5, 6 M6

## 接线端子KF350(螺钉式3.5mm)
designator P?, comment KF350-16P
footprint KF350-16P
pins: 1, 2, 3, 4, 5, 6, 7, 8, 9, 10, 11, 12, 13, 14, 15, 16

## 接线端子KF350-18P
designator P?, comment KF350-18P
footprint KF350-18P
pins: 1, 2, 3, 4, 5, 6, 7, 8, 9, 10, 11, 12, 13, 14, 15, 16, 17, 18

## 摇杆电位器
designator *
footprint 摇杆电位器
pins: 1 R1, 2 Rt, 3 R1, 4 R2, 5 Rt, 6 R2

## 测试点
designator P?
测试点
footprint HEADER 1
footprint 测试点(实心)
footprint 定位孔
pins: 1

## 滑动开关
designator *
footprint SS12D06
pins: 1, 2, 3

## 电力载波模块6410
designator U?, comment 电力载波模块
footprint 电力载波模块6410
pins: 1 GND, 2 RST, 3 ETH, 4 PLC, 5 PWR, 6 3.3V, 7 TXP, 8 TXN, 9 RXP, 10 RXN, 11 12V, 12 GND, 13 AC/L, 14 NC, 15 NC, 16 AC/N
text: PLC电力载波模块

## 电力载波模块CR600
designator U?
电力载波模块CR600
footprint CR600
pins: 1 VCC, 2 VCC, 3 GND, 4 TXD, 6 RXD, 12 GND, 26 GND, 31 PLD-, 32 PLD-, 33 NC, 34 NC, 35 PLD+, 36 PLD+

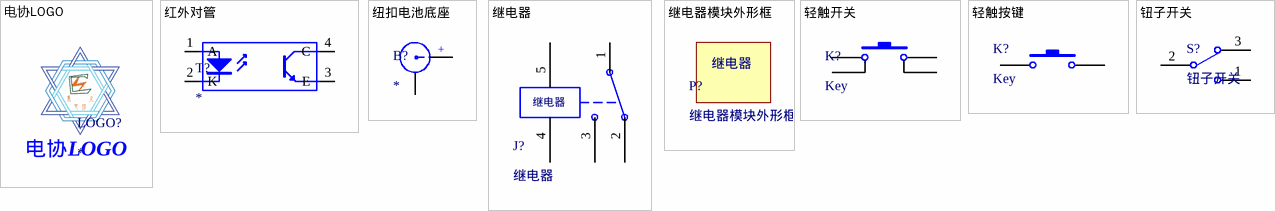
[diagram p5: symbols 电协LOGO to 钮子开关]

## 电协LOGO
designator LOGO?
电协LOGO
footprint 电协LOGO

## 红外对管
designator T?
红外对管
footprint TCR5000
footprint ST188
footprint SOP-4
pins: 1 A "Anode", 2 K "Cathode", 3 E "Emitter", 4 C "Collector"

## 纽扣电池底座
designator B?
纽扣电池底座
footprint CR1220
footprint CR2032
pins: 1 +, 2
1 alternate drawing of the same symbol

## 继电器
designator J?
footprint 继电器
footprint 继电器(小型) (F3AA (20mm*7mm))
pins: 1, 2, 3, 4, 5

## 继电器模块外形框
designator P?
footprint 继电器外形框
text: 继电器

## 轻触开关
designator K?, comment Key
四脚按键
footprint 四角按键(贴片)
footprint SW_PB4
footprint SW_PB4_DIP
pins: 1, 2, 3, 4

## 轻触按键
designator K?, comment Key
轻触开关
footprint 贴片按键
footprint 四角按键(卧式) (轻触开关 卧式带支架)
footprint 卧式侧按键 4.5*4.5*6
pins: 1, 2

## 钮子开关
designator S?
大功率开关
footprint 钮子开关(小)
footprint 钮子开关(大)
pins: 1, 2, 3